# Altium integrated library rodgel.IntLib: 579 symbols (part 3 of 4)
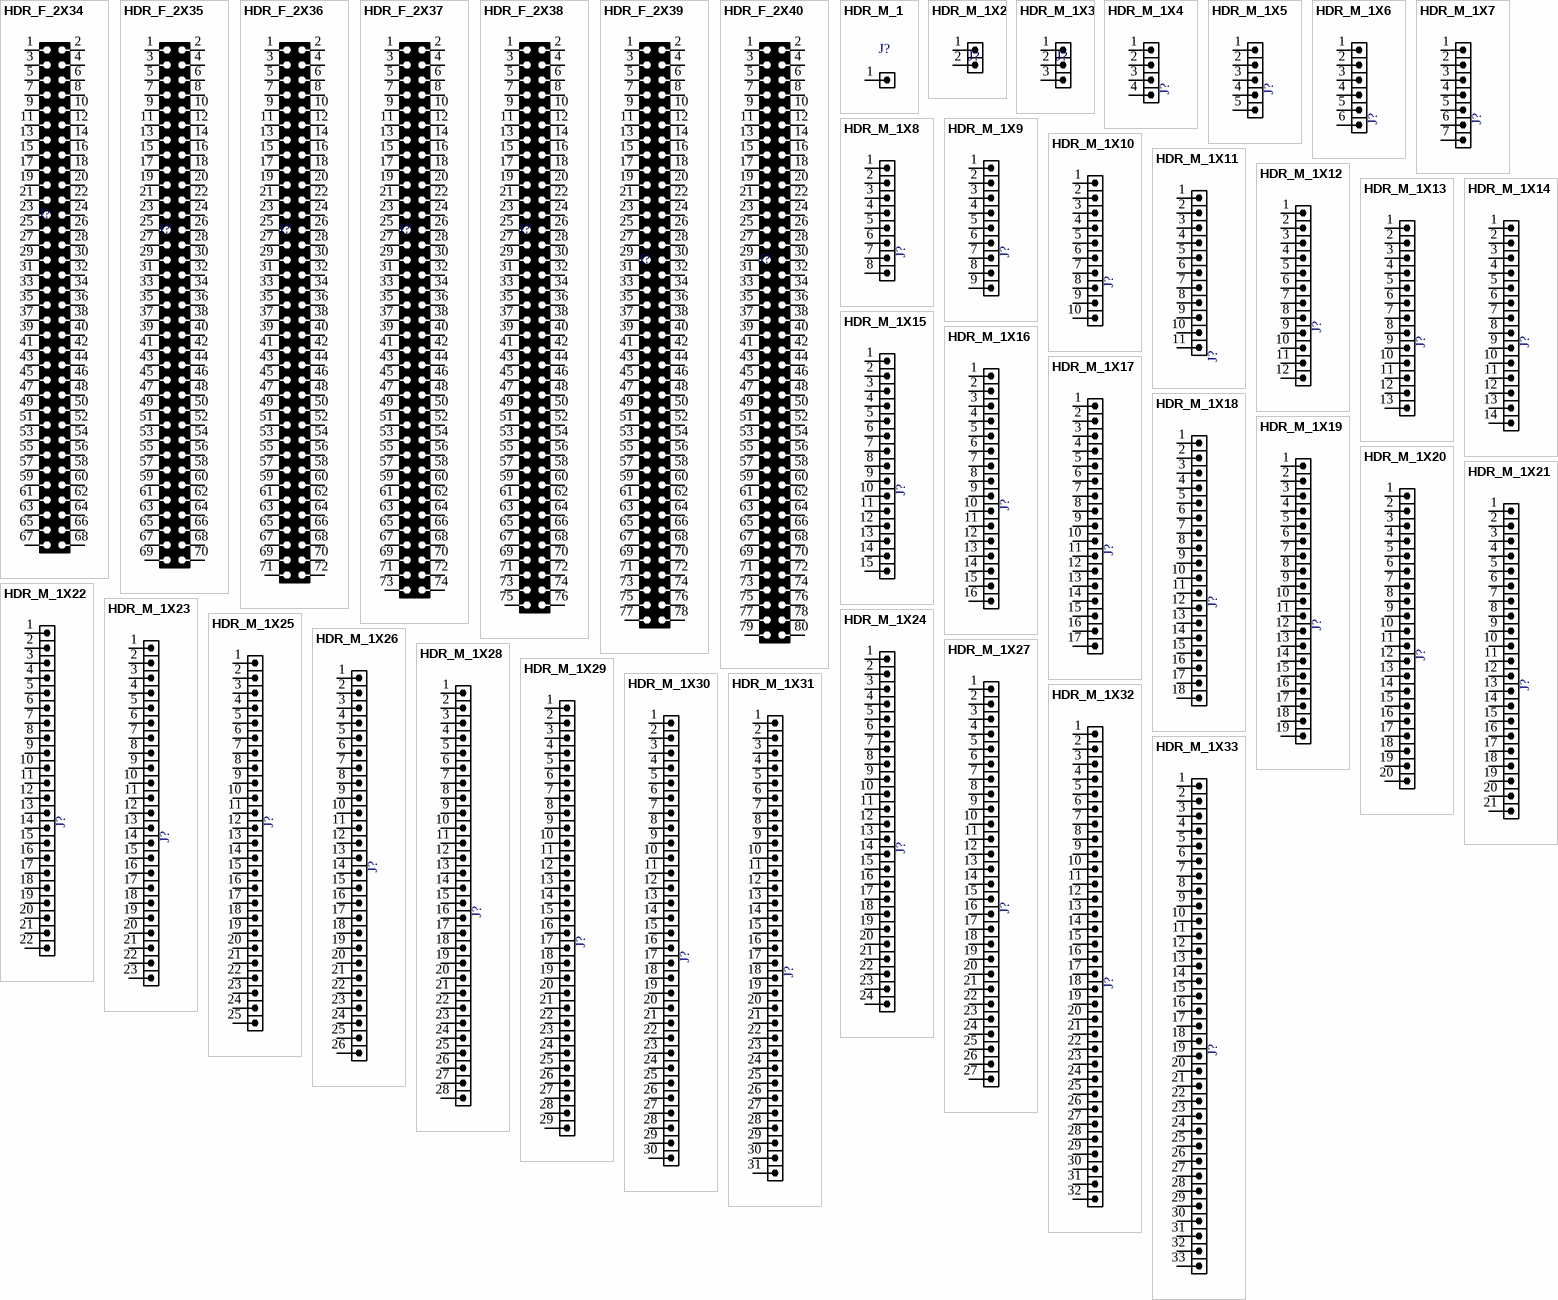
[diagram p19: symbols HDR_F_2X34 to HDR_M_1X33]

## HDR_M_1X24
designator J?, comment HDRF24  (value not drawn)
CONN, HEADER, Male, pitch: 2.54mm, 24POS; VALUE: HDRF24
footprint HDR_M_1X24 (Connector; Header; 24 Position)
pins: 1, 2, 3, 4, 5, 6, 7, 8, 9, 10, 11, 12, 13, 14, 15, 16, 17, 18, 19, 20, 21, 22, 23, 24

## HDR_M_1X25
designator J?, comment HDR1X25  (value not drawn)
CONN, HEADER, Male, pitch: 2.54mm, 25POS; VALUE: HDRM25
footprint HDR_M_1X25 (Connector; Header; 25 Position)
pins: 1, 2, 3, 4, 5, 6, 7, 8, 9, 10, 11, 12, 13, 14, 15, 16, 17, 18, 19, 20, 21, 22, 23, 24, 25

## HDR_M_1X26
designator J?, comment HDRF26  (value not drawn)
CONN, HEADER, Male, pitch: 2.54mm, 26POS; VALUE: HDRF26
footprint HDR_M_1X26 (Connector; Header; 26 Position)
pins: 1, 2, 3, 4, 5, 6, 7, 8, 9, 10, 11, 12, 13, 14, 15, 16, 17, 18, 19, 20, 21, 22, 23, 24, 25, 26

## HDR_M_1X27
designator J?, comment HDRF27  (value not drawn)
CONN, HEADER, Male, pitch: 2.54mm, 27POS; VALUE: HDRF27
footprint HDR_M_1X27 (Connector; Header; 27 Position)
pins: 1, 2, 3, 4, 5, 6, 7, 8, 9, 10, 11, 12, 13, 14, 15, 16, 17, 18, 19, 20, 21, 22, 23, 24, 25, 26, 27

## HDR_M_1X28
designator J?, comment HDRF28  (value not drawn)
CONN, HEADER, Male, pitch: 2.54mm, 28POS; VALUE: HDRF28
footprint HDR_M_1X28 (Connector; Header; 28 Position)
pins: 1, 2, 3, 4, 5, 6, 7, 8, 9, 10, 11, 12, 13, 14, 15, 16, 17, 18, 19, 20, 21, 22, 23, 24, 25, 26, 27, 28

## HDR_M_1X29
designator J?, comment HDRF29  (value not drawn)
CONN, HEADER, Male, pitch: 2.54mm, 29POS; VALUE: HDRF29
footprint HDR_M_1X29 (Connector; Header; 29 Position)
pins: 1, 2, 3, 4, 5, 6, 7, 8, 9, 10, 11, 12, 13, 14, 15, 16, 17, 18, 19, 20, 21, 22, 23, 24, 25, 26, 27, 28, 29

## HDR_M_1X30
designator J?, comment HDRF30  (value not drawn)
CONN, HEADER, Male, pitch: 2.54mm, 30POS; VALUE: HDRF30
footprint HDR_M_1X30 (Connector; Header; 30 Position)
pins: 1, 2, 3, 4, 5, 6, 7, 8, 9, 10, 11, 12, 13, 14, 15, 16, 17, 18, 19, 20, 21, 22, 23, 24, 25, 26, 27, 28, 29, 30

## HDR_M_1X31
designator J?, comment HDRF31  (value not drawn)
CONN, HEADER, Male, pitch: 2.54mm, 31POS; VALUE: HDRF31
footprint HDR_M_1X31 (Connector; Header; 31 Position)
pins: 1, 2, 3, 4, 5, 6, 7, 8, 9, 10, 11, 12, 13, 14, 15, 16, 17, 18, 19, 20, 21, 22, 23, 24, 25, 26, 27, 28, 29, 30, 31

## HDR_M_1X32
designator J?, comment HDRF32  (value not drawn)
CONN, HEADER, Male, pitch: 2.54mm, 32POS; VALUE: HDRF32
footprint HDR_M_1X32 (Connector; Header; 32 Position)
pins: 1, 2, 3, 4, 5, 6, 7, 8, 9, 10, 11, 12, 13, 14, 15, 16, 17, 18, 19, 20, 21, 22, 23, 24, 25, 26, 27, 28, 29, 30, 31, 32

## HDR_M_1X33
designator J?, comment HDRF33  (value not drawn)
CONN, HEADER, Male, pitch: 2.54mm, 33POS; VALUE: HDRF33
footprint HDR_M_1X33 (Connector; Header; 33 Position)
pins: 1, 2, 3, 4, 5, 6, 7, 8, 9, 10, 11, 12, 13, 14, 15, 16, 17, 18, 19, 20, 21, 22, 23, 24, 25, 26, 27, 28, 29, 30, 31, 32, 33

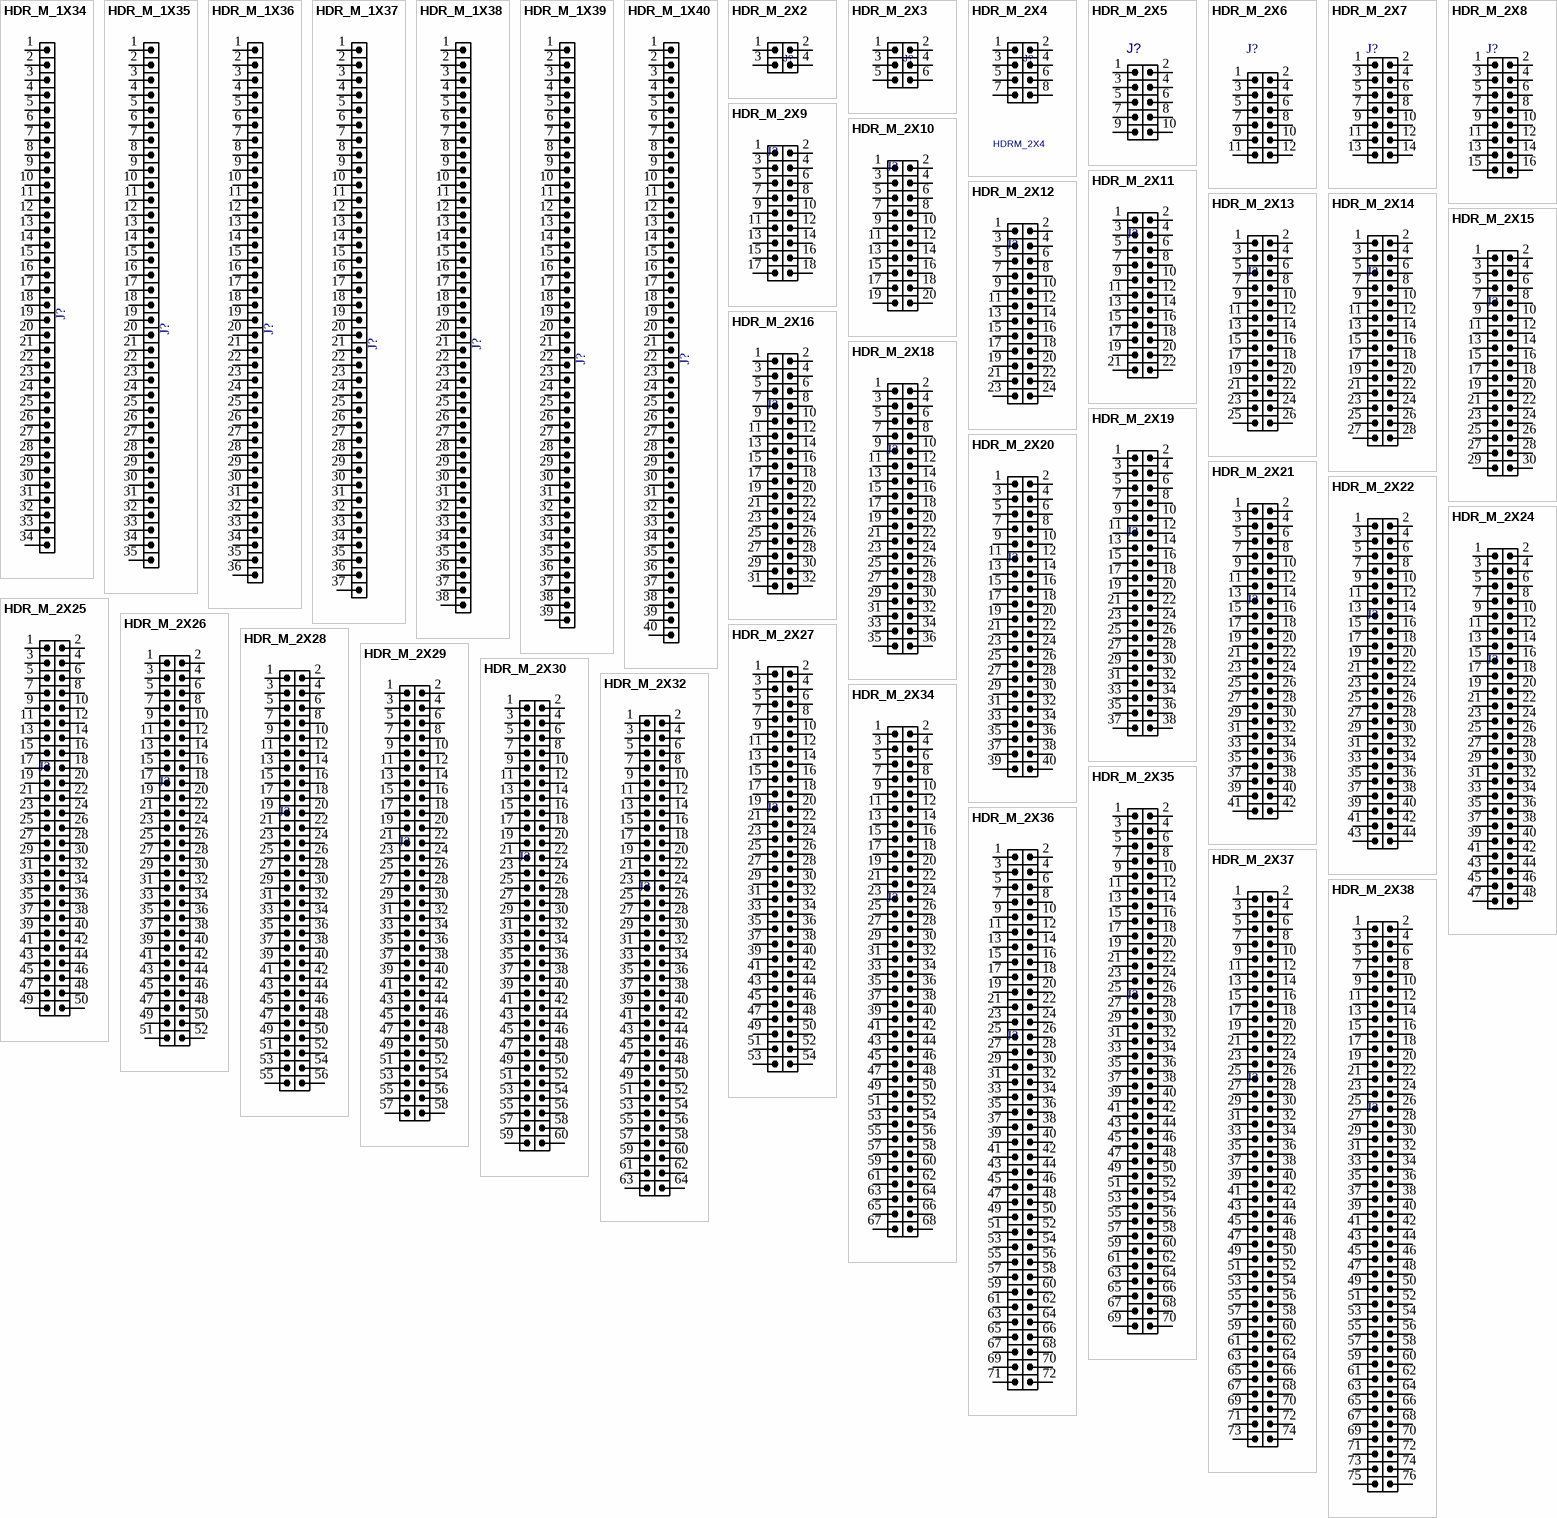
[diagram p9: symbols HDR_M_1X34 to HDR_M_2X38]

## HDR_M_1X34
designator J?, comment HDRF34  (value not drawn)
CONN, HEADER, Male, pitch: 2.54mm, 34POS; VALUE: HDRF34
footprint HDR_M_1X34 (Connector; Header; 34 Position)
pins: 1, 2, 3, 4, 5, 6, 7, 8, 9, 10, 11, 12, 13, 14, 15, 16, 17, 18, 19, 20, 21, 22, 23, 24, 25, 26, 27, 28, 29, 30, 31, 32, 33, 34

## HDR_M_1X35
designator J?, comment HDRF35  (value not drawn)
CONN, HEADER, Male, pitch: 2.54mm, 35POS; VALUE: HDRF35
footprint HDR_M_1X35 (Connector; Header; 36 Position)
pins: 1, 2, 3, 4, 5, 6, 7, 8, 9, 10, 11, 12, 13, 14, 15, 16, 17, 18, 19, 20, 21, 22, 23, 24, 25, 26, 27, 28, 29, 30, 31, 32, 33, 34, 35

## HDR_M_1X36
designator J?, comment HDRF36  (value not drawn)
CONN, HEADER, Male, pitch: 2.54mm, 36POS; VALUE: HDRF36
footprint HDR_M_1X36 (Connector; Header; 35 Position)
pins: 1, 2, 3, 4, 5, 6, 7, 8, 9, 10, 11, 12, 13, 14, 15, 16, 17, 18, 19, 20, 21, 22, 23, 24, 25, 26, 27, 28, 29, 30, 31, 32, 33, 34, 35, 36

## HDR_M_1X37
designator J?, comment HDRF37  (value not drawn)
CONN, HEADER, Male, pitch: 2.54mm, 37POS; VALUE: HDRF37
footprint HDR_M_1X37 (Connector; Header; 37 Position)
pins: 1, 2, 3, 4, 5, 6, 7, 8, 9, 10, 11, 12, 13, 14, 15, 16, 17, 18, 19, 20, 21, 22, 23, 24, 25, 26, 27, 28, 29, 30, 31, 32, 33, 34, 35, 36, 37

## HDR_M_1X38
designator J?, comment HDRF38  (value not drawn)
CONN, HEADER, Male, pitch: 2.54mm, 38POS; VALUE: HDRF38
footprint HDR_M_1X38 (Connector; Header; 38 Position)
pins: 1, 2, 3, 4, 5, 6, 7, 8, 9, 10, 11, 12, 13, 14, 15, 16, 17, 18, 19, 20, 21, 22, 23, 24, 25, 26, 27, 28, 29, 30, 31, 32, 33, 34, 35, 36, 37, 38

## HDR_M_1X39
designator J?, comment HDRF39  (value not drawn)
CONN, HEADER, Male, pitch: 2.54mm, 39POS; VALUE: HDRF39
footprint HDR_M_1X39 (Connector; Header; 39 Position)
pins: 1, 2, 3, 4, 5, 6, 7, 8, 9, 10, 11, 12, 13, 14, 15, 16, 17, 18, 19, 20, 21, 22, 23, 24, 25, 26, 27, 28, 29, 30, 31, 32, 33, 34, 35, 36, 37, 38, 39

## HDR_M_1X40
designator J?, comment HDRF40  (value not drawn)
CONN, HEADER, Male, pitch: 2.54mm, 40POS; VALUE: HDRF40
footprint HDR_M_1X40 (Connector; Header; 40 Position)
pins: 1, 2, 3, 4, 5, 6, 7, 8, 9, 10, 11, 12, 13, 14, 15, 16, 17, 18, 19, 20, 21, 22, 23, 24, 25, 26, 27, 28, 29, 30, 31, 32, 33, 34, 35, 36, 37, 38, 39, 40

## HDR_M_2X2
designator J?, comment HDRM_2X2  (value not drawn)
CONN, HEADER, Male, pitch: 2.54mm, 4POS; MANF_P#: MANF_PART#; MANF: MANF; VALUE: HDRM_2X2
footprint HDR_M_2X2 (Connector; Header; 2x2 Position)
pins: 1, 2, 3, 4

## HDR_M_2X3
designator J?, comment HDRM_2X3  (value not drawn)
CONN, HEADER, Male, pitch: 2.54mm, 6POS; MANF_P#: MANF_PART#; MANF: MANF; VALUE: HDRM_2X3
footprint HDR_M_2X3 (Connector; Header; 3x2 Position)
pins: 1, 2, 3, 4, 5, 6

## HDR_M_2X4
designator J?, comment HDRM_2X4
CONN, HEADER, Male, pitch: 2.54mm, 8POS; MANF_P#: MANF_PART#; MANF: MANF; VALUE: HDRM_2X4
footprint HDR_M_2X4 (Male Header 2X04 with 2.54 mm Pitch)
pins: 1, 2, 3, 4, 5, 6, 7, 8

## HDR_M_2X5
designator J?, comment HDRM_2X5  (value not drawn)
CONN, HEADER, Male, pitch: 2.54mm, 10POS; VALUE: HDRM_2X5
footprint HDR_M_2X5 (Male Header 2X05 with 2.54 mm Pitch)
pins: 1, 2, 3, 4, 5, 6, 7, 8, 9, 10

## HDR_M_2X6
designator J?, comment HDRM_2X6  (value not drawn)
CONN, HEADER, Male, pitch: 2.54mm, 12POS; VALUE: HDRM_2X6
footprint HDR_M_2X6 (Male Header 2X06 with 2.54 mm Pitch)
pins: 1, 2, 3, 4, 5, 6, 7, 8, 9, 10, 11, 12

## HDR_M_2X7
designator J?, comment HDRM_2X7  (value not drawn)
CONN, HEADER, Male, pitch: 2.54mm, 14POS; VALUE: HDRM_2X7
footprint HDR_M_2X7 (Male Header 2X07 with 2.54 mm Pitch)
pins: 1, 2, 3, 4, 5, 6, 7, 8, 9, 10, 11, 12, 13, 14

## HDR_M_2X8
designator J?, comment HDRM_2X8  (value not drawn)
CONN, HEADER, Male, pitch: 2.54mm, 16POS; VALUE: HDRM_2X8
footprint HDR_M_2X8 (Male Header 2X08 with 2.54 mm Pitch)
pins: 1, 2, 3, 4, 5, 6, 7, 8, 9, 10, 11, 12, 13, 14, 15, 16

## HDR_M_2X9
designator J?, comment HDRM_2X9  (value not drawn)
CONN, HEADER, Male, pitch: 2.54mm, 18POS; VALUE: HDRM_2X9
footprint HDR_M_2X9 (Male Header 2X09 with 2.54 mm Pitch)
pins: 1, 2, 3, 4, 5, 6, 7, 8, 9, 10, 11, 12, 13, 14, 15, 16, 17, 18

## HDR_M_2X10
designator J?, comment HDRM_2X10  (value not drawn)
CONN, HEADER, Male, pitch: 2.54mm, 20POS; VALUE: HDRM_2X10
footprint HDR_M_2X10 (Male Header 2X10 with 2.54 mm Pitch)
pins: 1, 2, 3, 4, 5, 6, 7, 8, 9, 10, 11, 12, 13, 14, 15, 16, 17, 18, 19, 20

## HDR_M_2X11
designator J?, comment HDRM_2X11  (value not drawn)
CONN, HEADER, Male, pitch: 2.54mm, 22POS; VALUE: HDRM_2X11
footprint HDR_M_2X11 (Male Header 2X11 with 2.54 mm Pitch)
pins: 1, 2, 3, 4, 5, 6, 7, 8, 9, 10, 11, 12, 13, 14, 15, 16, 17, 18, 19, 20, 21, 22

## HDR_M_2X12
designator J?, comment HDRM_2X12  (value not drawn)
CONN, HEADER, Male, pitch: 2.54mm, 24POS; VALUE: HDRM_2X12
footprint HDR_M_2X12 (Male Header 2X12 with 2.54 mm Pitch)
pins: 1, 2, 3, 4, 5, 6, 7, 8, 9, 10, 11, 12, 13, 14, 15, 16, 17, 18, 19, 20, 21, 22, 23, 24

## HDR_M_2X13
designator J?, comment HDRM_2X13  (value not drawn)
CONN, HEADER, Male, pitch: 2.54mm, 26POS; VALUE: HDRM_2X13
footprint HDR_M_2X13 (Male Header 2X13 with 2.54 mm Pitch)
pins: 1, 2, 3, 4, 5, 6, 7, 8, 9, 10, 11, 12, 13, 14, 15, 16, 17, 18, 19, 20, 21, 22, 23, 24, 25, 26

## HDR_M_2X14
designator J?, comment HDRM_2X14  (value not drawn)
CONN, HEADER, Male, pitch: 2.54mm, 28POS; VALUE: HDRM_2X14
footprint HDR_M_2X14 (Male Header 2X14 with 2.54 mm Pitch)
pins: 1, 2, 3, 4, 5, 6, 7, 8, 9, 10, 11, 12, 13, 14, 15, 16, 17, 18, 19, 20, 21, 22, 23, 24, 25, 26, 27, 28

## HDR_M_2X15
designator J?, comment HDRM_2X15  (value not drawn)
CONN, HEADER, Male, pitch: 2.54mm, 30POS; VALUE: HDRM_2X15
footprint HDR_M_2X15 (Connector; Header; 15x2 Position)
pins: 1, 2, 3, 4, 5, 6, 7, 8, 9, 10, 11, 12, 13, 14, 15, 16, 17, 18, 19, 20, 21, 22, 23, 24, 25, 26, 27, 28, 29, 30

## HDR_M_2X16
designator J?, comment HDRM_2X16  (value not drawn)
CONN, HEADER, Male, pitch: 2.54mm, 32POS; VALUE: HDRM_2X16
footprint HDR_M_2X16 (Connector; Header; 16x2 Position)
pins: 1, 2, 3, 4, 5, 6, 7, 8, 9, 10, 11, 12, 13, 14, 15, 16, 17, 18, 19, 20, 21, 22, 23, 24, 25, 26, 27, 28, 29, 30, 31, 32

## HDR_M_2X18
designator J?, comment HDRM_2X18  (value not drawn)
CONN, HEADER, Male, pitch: 2.54mm, 36POS; VALUE: HDRM_2X18
footprint HDR_M_2X18 (Connector; Header; 18x2 Position)
pins: 1, 2, 3, 4, 5, 6, 7, 8, 9, 10, 11, 12, 13, 14, 15, 16, 17, 18, 19, 20, 21, 22, 23, 24, 25, 26, 27, 28, 29, 30, 31, 32, 33, 34, 35, 36

## HDR_M_2X19
designator J?, comment HDRM_2X19  (value not drawn)
CONN, HEADER, Male, pitch: 2.54mm, 38POS; VALUE: HDRM_2X19
footprint HDR_M_2X19 (Connector; Header; 19x2 Position)
pins: 1, 2, 3, 4, 5, 6, 7, 8, 9, 10, 11, 12, 13, 14, 15, 16, 17, 18, 19, 20, 21, 22, 23, 24, 25, 26, 27, 28, 29, 30, 31, 32, 33, 34, 35, 36, 37, 38

## HDR_M_2X20
designator J?, comment HDRM_2X20  (value not drawn)
CONN, HEADER, Male, pitch: 2.54mm, 40POS; VALUE: HDRM_2X20
footprint HDR_M_2X20 (Connector; Header; 20x2 Position)
pins: 1, 2, 3, 4, 5, 6, 7, 8, 9, 10, 11, 12, 13, 14, 15, 16, 17, 18, 19, 20, 21, 22, 23, 24, 25, 26, 27, 28, 29, 30, 31, 32, 33, 34, 35, 36, 37, 38, 39, 40

## HDR_M_2X21
designator J?  (value not drawn)
CONN, HEADER, Male, pitch: 2.54mm; VALUE: HDR_M_2X21
footprint HDR_M_2X21 (Footprint not found)
pins: 1, 2, 3, 4, 5, 6, 7, 8, 9, 10, 11, 12, 13, 14, 15, 16, 17, 18, 19, 20, 21, 22, 23, 24, 25, 26, 27, 28, 29, 30, 31, 32, 33, 34, 35, 36, 37, 38, 39, 40, 41, 42

## HDR_M_2X22
designator J?  (value not drawn)
CONN, HEADER, Male, pitch: 2.54mm, 44POS; VALUE: HDR_M_2X22
footprint HDR_M_2X22 (Male Header 2X22 with 2.54 mm Pitch)
pins: 1, 2, 3, 4, 5, 6, 7, 8, 9, 10, 11, 12, 13, 14, 15, 16, 17, 18, 19, 20, 21, 22, 23, 24, 25, 26, 27, 28, 29, 30, 31, 32, 33, 34, 35, 36, 37, 38, 39, 40, 41, 42, 43, 44

## HDR_M_2X24
designator J?  (value not drawn)
CONN, HEADER, Male, pitch: 2.54mm, 48POS; VALUE: HDR_M_2X24
footprint HDR_M_2X24 (Male Header 2X24 with 2.54 mm Pitch)
pins: 1, 2, 3, 4, 5, 6, 7, 8, 9, 10, 11, 12, 13, 14, 15, 16, 17, 18, 19, 20, 21, 22, 23, 24, 25, 26, 27, 28, 29, 30, 31, 32, 33, 34, 35, 36, 37, 38, 39, 40, 41, 42, 43, 44, 45, 46, 47, 48

## HDR_M_2X25
designator J?  (value not drawn)
CONN, HEADER, Male, pitch: 2.54mm, 50POS; VALUE: HDR_M_2X25
footprint HDR_M_2X25 (Male Header 2X25 with 2.54 mm Pitch)
pins: 1, 2, 3, 4, 5, 6, 7, 8, 9, 10, 11, 12, 13, 14, 15, 16, 17, 18, 19, 20, 21, 22, 23, 24, 25, 26, 27, 28, 29, 30, 31, 32, 33, 34, 35, 36, 37, 38, 39, 40, 41, 42, 43, 44, 45, 46, 47, 48, 49, 50

## HDR_M_2X26
designator J?  (value not drawn)
CONN, HEADER, Male, pitch: 2.54mm, 52POS; VALUE: HDR_M_2X26
footprint HDR_M_2X26 (Male Header 2X26 with 2.54 mm Pitch)
pins: 1, 2, 3, 4, 5, 6, 7, 8, 9, 10, 11, 12, 13, 14, 15, 16, 17, 18, 19, 20, 21, 22, 23, 24, 25, 26, 27, 28, 29, 30, 31, 32, 33, 34, 35, 36, 37, 38, 39, 40, 41, 42, 43, 44, 45, 46, 47, 48, 49, 50, 51, 52

## HDR_M_2X27
designator J?  (value not drawn)
CONN, HEADER, Male, pitch: 2.54mm,; VALUE: HDR_M_2X27
footprint HDR_M_2X27 (Footprint not found)
pins: 1, 2, 3, 4, 5, 6, 7, 8, 9, 10, 11, 12, 13, 14, 15, 16, 17, 18, 19, 20, 21, 22, 23, 24, 25, 26, 27, 28, 29, 30, 31, 32, 33, 34, 35, 36, 37, 38, 39, 40, 41, 42, 43, 44, 45, 46, 47, 48, 49, 50, 51, 52, 53, 54

## HDR_M_2X28
designator J?  (value not drawn)
CONN, HEADER, Male, pitch: 2.54mm, 54POS; VALUE: HDR_M_2X28
footprint HDR_M_2X28 (Male Header 2X28 with 2.54 mm Pitch)
pins: 1, 2, 3, 4, 5, 6, 7, 8, 9, 10, 11, 12, 13, 14, 15, 16, 17, 18, 19, 20, 21, 22, 23, 24, 25, 26, 27, 28, 29, 30, 31, 32, 33, 34, 35, 36, 37, 38, 39, 40, 41, 42, 43, 44, 45, 46, 47, 48, 49, 50, 51, 52, 53, 54, 55, 56

## HDR_M_2X29
designator J?  (value not drawn)
CONN, HEADER, Male, pitch: 2.54mm,; VALUE: HDR_M_2X29
footprint HDR_M_2X29 (Footprint not found)
pins: 1, 2, 3, 4, 5, 6, 7, 8, 9, 10, 11, 12, 13, 14, 15, 16, 17, 18, 19, 20, 21, 22, 23, 24, 25, 26, 27, 28, 29, 30, 31, 32, 33, 34, 35, 36, 37, 38, 39, 40, 41, 42, 43, 44, 45, 46, 47, 48, 49, 50, 51, 52, 53, 54, 55, 56, 57, 58

## HDR_M_2X30
designator J?  (value not drawn)
CONN, HEADER, Male, pitch: 2.54mm, 60POS; VALUE: HDR_M_2X30
footprint HDR_M_2X30 (Male Header 2X30 with 2.54 mm Pitch)
pins: 1, 2, 3, 4, 5, 6, 7, 8, 9, 10, 11, 12, 13, 14, 15, 16, 17, 18, 19, 20, 21, 22, 23, 24, 25, 26, 27, 28, 29, 30, 31, 32, 33, 34, 35, 36, 37, 38, 39, 40, 41, 42, 43, 44, 45, 46, 47, 48, 49, 50, 51, 52, 53, 54, 55, 56, 57, 58, 59, 60

## HDR_M_2X32
designator J?  (value not drawn)
CONN, HEADER, Male, pitch: 2.54mm, 64POS; VALUE: HDR_M_2X32
footprint HDR_M_2X32 (Male Header 2X32 with 2.54 mm Pitch)
pins: 1, 2, 3, 4, 5, 6, 7, 8, 9, 10, 11, 12, 13, 14, 15, 16, 17, 18, 19, 20, 21, 22, 23, 24, 25, 26, 27, 28, 29, 30, 31, 32, 33, 34, 35, 36, 37, 38, 39, 40, 41, 42, 43, 44, 45, 46, 47, 48, 49, 50, 51, 52, 53, 54, 55, 56, 57, 58, 59, 60, 61, 62, 63, 64

## HDR_M_2X34
designator J?  (value not drawn)
CONN, HEADER, Male, pitch: 2.54mm, 68POS; VALUE: HDR_M_2X34
footprint HDR_M_2X34 (Male Header 2X34 with 2.54 mm Pitch)
pins: 1, 2, 3, 4, 5, 6, 7, 8, 9, 10, 11, 12, 13, 14, 15, 16, 17, 18, 19, 20, 21, 22, 23, 24, 25, 26, 27, 28, 29, 30, 31, 32, 33, 34, 35, 36, 37, 38, 39, 40, 41, 42, 43, 44, 45, 46, 47, 48, 49, 50, 51, 52, 53, 54, 55, 56, 57, 58, 59, 60, 61, 62, 63, 64, 65, 66, 67, 68

## HDR_M_2X35
designator J?  (value not drawn)
CONN, HEADER, Male, pitch: 2.54mm, 70POS; VALUE: HDR_M_2X35
footprint HDR_M_2X35 (Male Header 2X35 with 2.54 mm Pitch)
pins: 1, 2, 3, 4, 5, 6, 7, 8, 9, 10, 11, 12, 13, 14, 15, 16, 17, 18, 19, 20, 21, 22, 23, 24, 25, 26, 27, 28, 29, 30, 31, 32, 33, 34, 35, 36, 37, 38, 39, 40, 41, 42, 43, 44, 45, 46, 47, 48, 49, 50, 51, 52, 53, 54, 55, 56, 57, 58, 59, 60, 61, 62, 63, 64, 65, 66, 67, 68, 69, 70

## HDR_M_2X36
designator J?  (value not drawn)
CONN, HEADER, Male, pitch: 2.54mm, 72POS; VALUE: HDR_M_2X36
footprint HDR_M_2X36 (Male Header 2X36 with 2.54 mm Pitch)
pins: 1, 2, 3, 4, 5, 6, 7, 8, 9, 10, 11, 12, 13, 14, 15, 16, 17, 18, 19, 20, 21, 22, 23, 24, 25, 26, 27, 28, 29, 30, 31, 32, 33, 34, 35, 36, 37, 38, 39, 40, 41, 42, 43, 44, 45, 46, 47, 48, 49, 50, 51, 52, 53, 54, 55, 56, 57, 58, 59, 60, 61, 62, 63, 64, 65, 66, 67, 68, 69, 70, 71, 72

## HDR_M_2X37
designator J?  (value not drawn)
CONN, HEADER, Male, pitch: 2.54mm,; VALUE: HDR_M_2X37
footprint HDR_M_2X37 (Footprint not found)
pins: 1, 2, 3, 4, 5, 6, 7, 8, 9, 10, 11, 12, 13, 14, 15, 16, 17, 18, 19, 20, 21, 22, 23, 24, 25, 26, 27, 28, 29, 30, 31, 32, 33, 34, 35, 36, 37, 38, 39, 40, 41, 42, 43, 44, 45, 46, 47, 48, 49, 50, 51, 52, 53, 54, 55, 56, 57, 58, 59, 60, 61, 62, 63, 64, 65, 66, 67, 68, 69, 70, 71, 72, 73, 74

## HDR_M_2X38
designator J?  (value not drawn)
CONN, HEADER, Male, pitch: 2.54mm, 76POS; VALUE: HDR_M_2X38
footprint HDR_M_2X38 (Male Header 2X38 with 2.54 mm Pitch)
pins: 1, 2, 3, 4, 5, 6, 7, 8, 9, 10, 11, 12, 13, 14, 15, 16, 17, 18, 19, 20, 21, 22, 23, 24, 25, 26, 27, 28, 29, 30, 31, 32, 33, 34, 35, 36, 37, 38, 39, 40, 41, 42, 43, 44, 45, 46, 47, 48, 49, 50, 51, 52, 53, 54, 55, 56, 57, 58, 59, 60, 61, 62, 63, 64, 65, 66, 67, 68, 69, 70, 71, 72, 73, 74, 75, 76

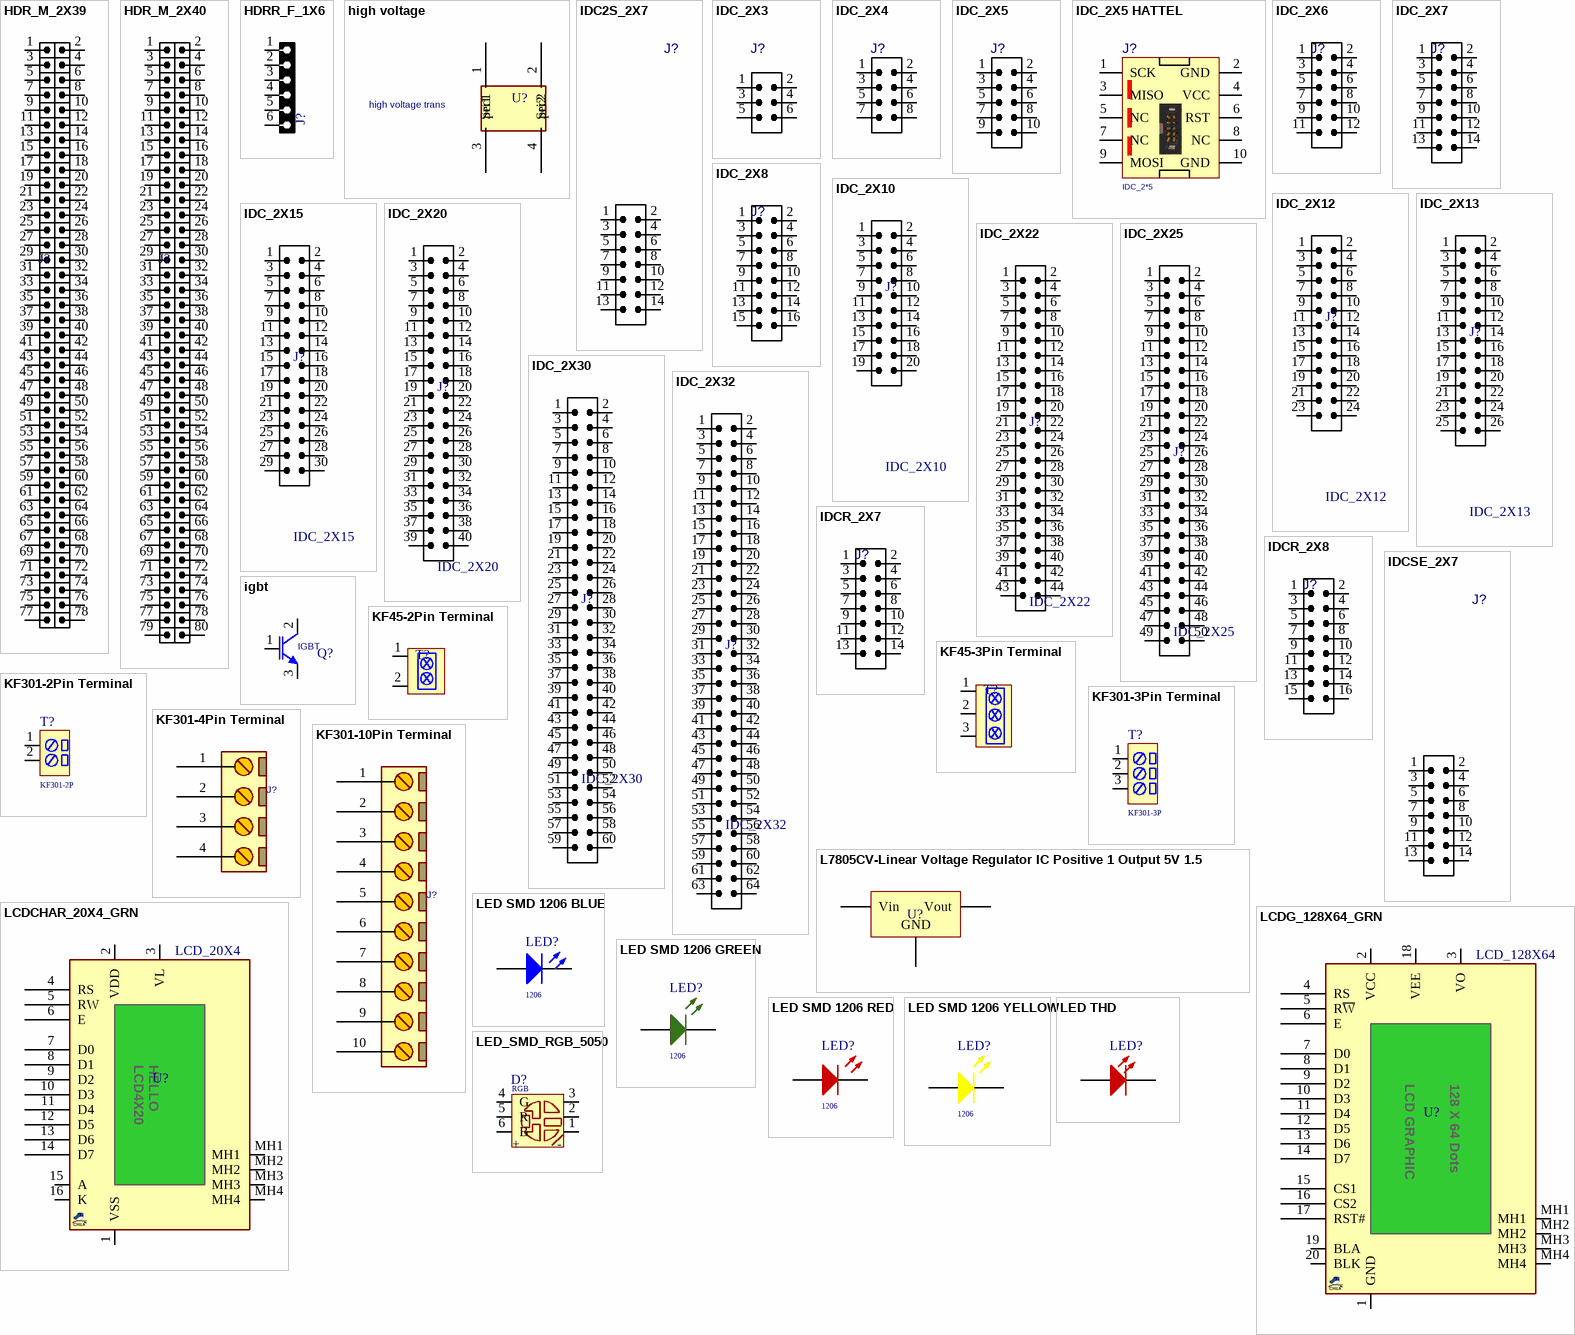
[diagram p10: symbols HDR_M_2X39 to LED_SMD_RGB_5050]

## HDR_M_2X39
designator J?  (value not drawn)
CONN, HEADER, Male, pitch: 2.54mm,; VALUE: HDR_M_2X39
footprint HDR_M_2X39 (Footprint not found)
pins: 1, 2, 3, 4, 5, 6, 7, 8, 9, 10, 11, 12, 13, 14, 15, 16, 17, 18, 19, 20, 21, 22, 23, 24, 25, 26, 27, 28, 29, 30, 31, 32, 33, 34, 35, 36, 37, 38, 39, 40, 41, 42, 43, 44, 45, 46, 47, 48, 49, 50, 51, 52, 53, 54, 55, 56, 57, 58, 59, 60, 61, 62, 63, 64, 65, 66, 67, 68, 69, 70, 71, 72, 73, 74, 75, 76, 77, 78

## HDR_M_2X40
designator J?  (value not drawn)
CONN, HEADER, Male, pitch: 2.54mm, 80POS; VALUE: HDR_M_2X40
footprint HDR_M_2X40 (Male Header 2X40 with 2.54 mm Pitch)
pins: 1, 2, 3, 4, 5, 6, 7, 8, 9, 10, 11, 12, 13, 14, 15, 16, 17, 18, 19, 20, 21, 22, 23, 24, 25, 26, 27, 28, 29, 30, 31, 32, 33, 34, 35, 36, 37, 38, 39, 40, 41, 42, 43, 44, 45, 46, 47, 48, 49, 50, 51, 52, 53, 54, 55, 56, 57, 58, 59, 60, 61, 62, 63, 64, 65, 66, 67, 68, 69, 70, 71, 72, 73, 74, 75, 76, 77, 78, 79, 80

## HDRR_F_1X6
designator J?, comment HDRF6  (value not drawn)
CONN, HEADER, Female, pitch: 2.54mm, 6POS; VALUE: HDRF6
footprint HDRR_F_1X6 (Connector; Header; 6 Position)
pins: 1, 2, 3, 4, 5, 6

## high voltage
designator U?, comment high voltage trans
MANF: Texas Instruments; MANF_P#: TLC59731D; PARAM2: 3.3/5VDD; PARAM: 50mA, 600Kbps, -40~+125℃; PRICE: 0.8$; VALUE: high voltage trans
footprint high voltage trans
pins: 1 pri1, 2 pri2, 3 Sec1, 4 Sec2

## IDC2S_2X7
designator J?, comment IDC2_2X7  (value not drawn)
CONN, IDC, Male, pitch: 2.54mm, 14POS, SMD; MANF_P#: 87832-1420; MANF: MOLEX; DESC: CONN HEADER .100 DUAL; ASSEMBLY: ASSEMBLY; PARAM: PARAM; PRICE: PRICE; VALUE: IDC2_2X7
footprint IDC2S_2X7 (MOLEX 87832-1420)
pins: 1, 2, 3, 4, 5, 6, 7, 8, 9, 10, 11, 12, 13, 14

## IDC_2X3
designator J?  (value not drawn)
CONN, IDC, Male, pitch: 2.54mm, 6POS; VALUE: IDC_2X3
footprint IDC_2X3
pins: 1, 2, 3, 4, 5, 6

## IDC_2X4
designator J?  (value not drawn)
CONN, IDC, Male, pitch: 2.54mm, 8POS; VALUE: IDC_2X4
footprint IDC_2X4 (IDC, HEADER BOX 2X4, 8p, 2.54mm pitch)
pins: 1, 2, 3, 4, 5, 6, 7, 8

## IDC_2X5
designator J?  (value not drawn)
CONN, IDC, Male, pitch: 2.54mm, 10POS; VALUE: IDC_2X5
footprint IDC_2X5 (IDC, HEADER BOX 2X5, 10p, 2.54mm pitch)
pins: 1, 2, 3, 4, 5, 6, 7, 8, 9, 10

## IDC_2X5 HATTEL
designator J?  value IDC_2*5
CONN, IDC, Male, pitch: 2.54mm, 10POS; Code Anbar: gh_o_1137_2; Designer: ahmadi; Package: BOX_HEADER; Category: Connector; Desc: *
footprint IDC2.54-10PIN @ (Connector; IDC, Low Profile Male Header, Thru-Hole; 10 Position; Vertical; Pitch 2.54 mm; 20.32 x 9.2 x 9.45 mm (LxWxH) DESIGNER : ABBAS BASEREH)
pins: 1 SCK, 2 GND, 3 MISO, 4 VCC, 5 NC, 6 RST, 7 NC, 8 NC, 9 MOSI, 10 GND

## IDC_2X6
designator J?  (value not drawn)
CONN, IDC, Male, pitch: 2.54mm, 12POS; VALUE: IDC_2X6
footprint IDC_2X6
pins: 1, 2, 3, 4, 5, 6, 7, 8, 9, 10, 11, 12

## IDC_2X7
designator J?  (value not drawn)
CONN, IDC, Male, pitch: 2.54mm, 14POS; VALUE: IDC_2X7
footprint IDC_2X7
pins: 1, 2, 3, 4, 5, 6, 7, 8, 9, 10, 11, 12, 13, 14

## IDC_2X8
designator J?  (value not drawn)
CONN, IDC, Male, pitch: 2.54mm, 16POS; VALUE: IDC_2X8
footprint IDC_2X8
pins: 1, 2, 3, 4, 5, 6, 7, 8, 9, 10, 11, 12, 13, 14, 15, 16

## IDC_2X10
designator J?
CONN, IDC, Male, pitch: 2.54mm, 20POS; VALUE: IDC_2X10
footprint IDC_2X10
pins: 1, 2, 3, 4, 5, 6, 7, 8, 9, 10, 11, 12, 13, 14, 15, 16, 17, 18, 19, 20

## IDC_2X12
designator J?
CONN, IDC, Male, pitch: 2.54mm, 24POS; VALUE: IDC_2X12
footprint IDC_2X12
pins: 1, 2, 3, 4, 5, 6, 7, 8, 9, 10, 11, 12, 13, 14, 15, 16, 17, 18, 19, 20, 21, 22, 23, 24

## IDC_2X13
designator J?
CONN, IDC, Male, pitch: 2.54mm, 26POS; VALUE: IDC_2X13
footprint IDC_2X13
pins: 1, 2, 3, 4, 5, 6, 7, 8, 9, 10, 11, 12, 13, 14, 15, 16, 17, 18, 19, 20, 21, 22, 23, 24, 25, 26

## IDC_2X15
designator J?
CONN, IDC, Male, pitch: 2.54mm, 30POS; VALUE: IDC_2X15
footprint IDC_2X15
pins: 1, 2, 3, 4, 5, 6, 7, 8, 9, 10, 11, 12, 13, 14, 15, 16, 17, 18, 19, 20, 21, 22, 23, 24, 25, 26, 27, 28, 29, 30

## IDC_2X20
designator J?
CONN, IDC, Male, pitch: 2.54mm, 40POS; VALUE: IDC_2X20
footprint IDC_2X20
pins: 1, 2, 3, 4, 5, 6, 7, 8, 9, 10, 11, 12, 13, 14, 15, 16, 17, 18, 19, 20, 21, 22, 23, 24, 25, 26, 27, 28, 29, 30, 31, 32, 33, 34, 35, 36, 37, 38, 39, 40

## IDC_2X22
designator J?
CONN, IDC, Male, pitch: 2.54mm, 44POS; VALUE: IDC_2X22
footprint IDC_2X22
pins: 1, 2, 3, 4, 5, 6, 7, 8, 9, 10, 11, 12, 13, 14, 15, 16, 17, 18, 19, 20, 21, 22, 23, 24, 25, 26, 27, 28, 29, 30, 31, 32, 33, 34, 35, 36, 37, 38, 39, 40, 41, 42, 43, 44

## IDC_2X25
designator J?
CONN, IDC, Male, pitch: 2.54mm, 50POS; VALUE: IDC_2X25
footprint IDC_2X25
pins: 1, 2, 3, 4, 5, 6, 7, 8, 9, 10, 11, 12, 13, 14, 15, 16, 17, 18, 19, 20, 21, 22, 23, 24, 25, 26, 27, 28, 29, 30, 31, 32, 33, 34, 35, 36, 37, 38, 39, 40, 41, 42, 43, 44, 45, 46, 47, 48, 49, 50

## IDC_2X30
designator J?
CONN, IDC, Male, pitch: 2.54mm, 60POS; VALUE: IDC_2X30
footprint IDC_2X30
pins: 1, 2, 3, 4, 5, 6, 7, 8, 9, 10, 11, 12, 13, 14, 15, 16, 17, 18, 19, 20, 21, 22, 23, 24, 25, 26, 27, 28, 29, 30, 31, 32, 33, 34, 35, 36, 37, 38, 39, 40, 41, 42, 43, 44, 45, 46, 47, 48, 49, 50, 51, 52, 53, 54, 55, 56, 57, 58, 59, 60

## IDC_2X32
designator J?
CONN, IDC, Male, pitch: 2.54mm, 64POS; VALUE: IDC_2X32
footprint IDC_2X32
pins: 1, 2, 3, 4, 5, 6, 7, 8, 9, 10, 11, 12, 13, 14, 15, 16, 17, 18, 19, 20, 21, 22, 23, 24, 25, 26, 27, 28, 29, 30, 31, 32, 33, 34, 35, 36, 37, 38, 39, 40, 41, 42, 43, 44, 45, 46, 47, 48, 49, 50, 51, 52, 53, 54, 55, 56, 57, 58, 59, 60, 61, 62, 63, 64

## IDCR_2X7
designator J?, comment IDC_2X7  (value not drawn)
CONN, IDC, Male, pitch: 2.54mm, 14POS, RightAngle; VALUE: IDC_2X7
footprint IDCR_2X7
pins: 1, 2, 3, 4, 5, 6, 7, 8, 9, 10, 11, 12, 13, 14

## IDCR_2X8
designator J?, comment IDC_2X8  (value not drawn)
CONN, IDC, Male, pitch: 2.54mm, 16POS, RightAngle; VALUE: IDC_2X8
footprint IDCR_2X8
pins: 1, 2, 3, 4, 5, 6, 7, 8, 9, 10, 11, 12, 13, 14, 15, 16

## IDCSE_2X7
designator J?, comment IDC_2X7  (value not drawn)
CONN, IDC, Male, pitch: 2.54mm, 14POS, SMD; DESC: CONN HEADER .100 DUAL; MANF_P#: -; MANF: -; ASSEMBLY: ASSEMBLY; PARAM: PARAM; PRICE: PRICE; VALUE: IDC_2X7
footprint IDCSE_2X7 (IDC, HEADER BOX 2X7, 14p, 2.54mm pitch, EDGE of Board)
pins: 1, 2, 3, 4, 5, 6, 7, 8, 9, 10, 11, 12, 13, 14

## igbt
designator Q?, comment IGBT
BJT, NPN, 45v, 0.1A, SOT23; PARAM: 0.1A, Hfe110~800; PARAM2: 45v, 500mW; MANF_P#: BC847; MANF: NXP; VALUE: IGBT
footprint TO247_3 (TO247, TO-247, TO-3P pitch: 5.5mm 16x5mm, TO-218)
footprint TO247_3B (TO247, TO-247, TO-3P BENDED, pitch: 5.5mm  TO-218)
pins: 1 i, 2 C, 3 E

## KF45-2Pin Terminal
designator T?  (value not drawn)
Value: KF45-2P; Category: Connector
footprint KF45 2PIN (Designer Abbas Basereh)
pins: 1, 2

## KF45-3Pin Terminal
designator T?  (value not drawn)
Value: KF45-2P; Category: Connector
footprint KF45 3PIN (Designer Abbas Basereh)
pins: 1, 2, 3

## KF301-2Pin Terminal
designator T?  value KF301-2P  (hidden comment: KF301-2Pin Terminal)
Terminal 2 Pin 250VAC 16A; Designer: Abbas Basereh; Category: Connector
footprint KF301 2PIN (Designer Abbas Basereh)
pins: 1, 2

## KF301-3Pin Terminal
designator T?  value KF301-3P  (hidden comment: KF301-3Pin Terminal)
Terminal 3 Pin 250VAC 16A; Designer: Abbas Basereh; Category: Connector
footprint KF301 3PIN (Designer Abbas Basereh)
pins: 1, 2, 3

## KF301-4Pin Terminal
designator J?, comment CONN_TB4  (value not drawn)
CONN, TERMINAL BLOCK, 5.08mm pitch; VALUE: CONN_TB4
footprint KF301 4PIN (Terminal Block Blue)
pins: 1, 2, 3, 4

## KF301-10Pin Terminal
designator J?, comment CONN_TB10  (value not drawn)
CONN, TERMINAL BLOCK, 5.08mm pitch; VALUE: CONN_TB10
footprint P_TBB_10 (Terminal Block Blue)
pins: 1, 2, 3, 4, 5, 6, 7, 8, 9, 10

## L7805CV-Linear Voltage Regulator IC Positive 1 Output 5V 1.5A TO-220AB
designator U?, comment L7805CV  (value not drawn)
Linear Voltage Regulator IC Positive FIXED; Manufacturer: STMicroelectronics; Designer: Abbas Basereh; Link: https://www.aliexpress.com/item/; Link: http://www.tme.eu/en/; Link: http://www.digikey.com/; Part. No: L7805CV
footprint TO-220 AB WITH HEAT SINK (Epoxy meets UL94, V0)
footprint TO-220 AB (Epoxy meets UL94, V0)
footprint TO-220 AB S (Epoxy meets UL94, V0)
footprint TO-220 AB WITH HEAT SINK ASM
footprint TO-220 AB with heatsink ya25 (Epoxy meets UL94, V0-Design:Abbas Basereh)
pins: 1 Vin, 2 GND, 3 Vout

## LCDCHAR_20X4_GRN
designator U?, comment LCD_20X4
LCD Character Disp, 20X4; MANF: Sunrom; MANF_P#: JHD204A; PARAM2: Green back, Gray, 5V; PARAM: 4 lines x 20 characters; VALUE: LCD_20X4
footprint LCDCHAR_20X4_GRN (LCD Characters Display, 4linesX20char, Green, header1x16)
pins: 1 VSS, 2 VDD, 3 VL, 4 RS, 5 RW, 6 E, 7 D0, 8 D1, 9 D2, 10 D3, 11 D4, 12 D5, 13 D6, 14 D7, 15 A, 16 K, MH1, MH2, MH3, MH4
text: LCD4X20; HELLO

## LCDG_128X64_GRN
designator U?, comment LCD_128X64
LCD Graphic Disp, 128X64, with KS108 Controller; MANF: Winstar; MANF_P#: TS12864A-2, WG12864A-1; PARAM2: Green back, Gray, 5V; PARAM: 128X64 Dots, 2.9"; VALUE: LCD_128X64
footprint LCDG_128X64_GRN (LCD Graphic Disp, 128X64, TS12864A-2)
pins: 1 GND, 2 VCC, 3 VO, 4 RS, 5 R~{W}, 6 E, 7 D0, 8 D1, 9 D2, 10 D3, 11 D4, 12 D5, 13 D6, 14 D7, 15 CS1, 16 CS2, 17 RST#, 18 VEE, 19 BLA, 20 BLK, MH1, MH2, MH3, MH4
text: LCD GRAPHIC; 128 X 64 Dots

## LED SMD 1206 BLUE
designator LED?  Package: 1206
Value: BLUE; Code Anbar: h.k; Category: LED
footprint LED 1206 @ (LED, 1206)
pins: 1 A, 2 K

## LED SMD 1206 GREEN
designator LED?  Package: 1206
Code Anbar: h.k; Value: Green; Category: LED
footprint LED 1206 @ (LED, 1206)
pins: 1 A, 2 K

## LED SMD 1206 RED
designator LED?  Package: 1206
Code Anbar: h.k; Designer: ahmadi; Value: RED-1.9v; Category: LED
footprint LED 1206 @ (LED, 1206)
pins: 1 A, 2 K

## LED SMD 1206 YELLOW
designator LED?  Package: 1206
Code Anbar: h.k; Value: Yellow; Category: LED
footprint LED 1206 @ (LED, 1206)
pins: 1 A, 2 K

## LED THD
designator LED?
THD 5mm RED; Desc: 1.9v; Category: LED; Value: Red
footprint LED_5MM_RED (LED THD 5MM RED)
footprint LED3mm_GRN
pins: 1 A, 2 K

## LED_SMD_RGB_5050
designator D?  value RGB
Code Anbar: gh_o_935_2; Category: LED; Package: 5050
footprint LED SMD RGB 5050 @
pins: 1 B, 2 R, 3 G, 4 G, 5 R, 6 B
text: +; -

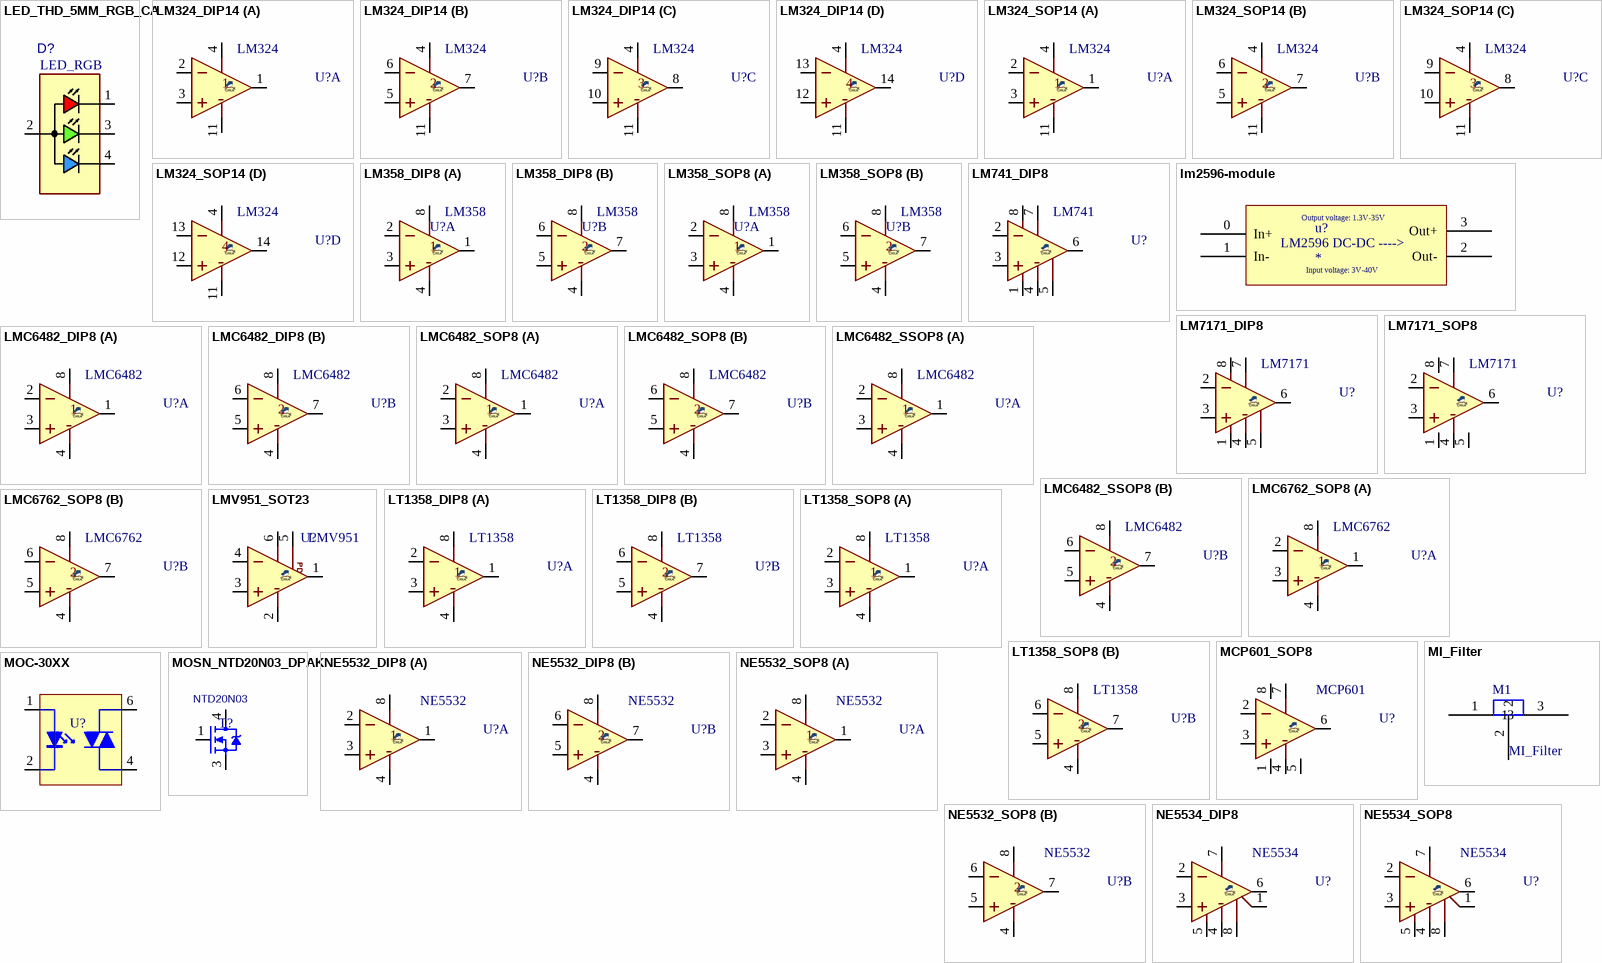
[diagram p11: symbols LED_THD_5MM_RGB_CA to NE5534_SOP8]

## LED_THD_5MM_RGB_CA
designator D?, comment LED_RGB
LED, THD, 5MM, RGB COMMON CATHODE; MANF_P#: YSL-R596CR3G4B5C-C10; MANF: CHINA YOUNG; DESC: DESCRIPTION; ASSEMBLY: ASSEMBLY; PRICE: PRICE; VALUE: LED_RGB
footprint LED5RGB (LED THD 5MM RGB)
pins: 1 RED, 2 C, 3 GRN, 4 BLU

## LM324_DIP14
designator U?, comment LM324
AMP, Quad, Single-Supply; MANF: ON, Texas Instruments, ST; MANF_P#: LM324AN; VALUE: LM324
footprint DIP_14 (DIP, pitch 2.54mm, 300mil Width)
pins on every part: 4 V+, 11 V-
part A pins: 1 OUT, 2 IN-, 3 IN+
part B pins: 5 IN+, 6 IN-, 7 OUT
part C pins: 8 OUT, 9 IN-, 10 IN+
part D pins: 12 IN+, 13 IN-, 14 OUT

## LM324_SOP14
designator U?, comment LM324
AMP, Quad, Single-Supply; MANF: ON, Texas Instruments, ST; MANF_P#: LM324AD; VALUE: LM324
footprint SO_14
pins on every part: 4 V+, 11 V-
part A pins: 1 OUT, 2 IN-, 3 IN+
part B pins: 5 IN+, 6 IN-, 7 OUT
part C pins: 8 OUT, 9 IN-, 10 IN+
part D pins: 12 IN+, 13 IN-, 14 OUT

## LM358_DIP8
designator U?, comment LM358
AMP, Dual, Low-Power; MANF: Texas Instruments, Fairchild; MANF_P#: LM358AN; PARAM2: 3 V ~ 32 V, ±1.5 V ~ 16 V; PRICE: -; VALUE: LM358
footprint DIP_8 (DIP, pitch 2.54mm, 300mil Width)
pins on every part: 4 V-, 8 V+
part A pins: 1 OUT, 2 IN-, 3 IN+
part B pins: 5 IN+, 6 IN-, 7 OUT

## LM358_SOP8
designator U?, comment LM358
AMP, Dual, Low-Power; MANF: Texas Instruments, Fairchild; MANF_P#: LM358AMX; PARAM2: 3 V ~ 32 V, ±1.5 V ~ 16 V; PRICE: 1=0.47, 25=0.31, 100=0.2547, 250=0.21224, 500=0.17632, 750=0.14692, 1000=0.1306 (USD); VALUE: LM358
footprint SO_8
pins on every part: 4 V-, 8 V+
part A pins: 1 OUT, 2 IN-, 3 IN+
part B pins: 5 IN+, 6 IN-, 7 OUT

## LM741_DIP8
designator U?, comment LM741
AMP, General-Purpose; MANF: Texas Instruments; MANF_P#: LM741CN; VALUE: LM741
footprint DIP_8 (DIP, pitch 2.54mm, 300mil Width)
pins: 1 OFFSET_NULL, 2 IN-, 3 IN+, 4 V-, 5 OFFSET_NULL, 6 OUT, 7 V+, 8 NC

## lm2596-module
designator u?
footprint Lm2596-module (7SEG single 5INCH, 10pin, Pitch: 5.08mm, 180X108mm)
pins: 0 In+, 1 In-, 2 Out-, 3 Out+
text: Output voltage: 1.3V-35V; LM2596 DC-DC ---->; Input voltage: 3V-40V

## LM7171_DIP8
designator U?, comment LM7171
AMP, Very High Sp, High Output Current, VoltageFeedback; MANF: Texas Instruments; MANF_P#: LM7171BIN; VALUE: LM7171
footprint DIP_8 (DIP, pitch 2.54mm, 300mil Width)
pins: 1, 2 IN-, 3 IN+, 4 V-, 5, 6 OUT, 7 V+, 8

## LM7171_SOP8
designator U?, comment LM7171
AMP, Very High Sp, High Output Current, VoltageFeedback; MANF: Texas Instruments; MANF_P#: LM7171BIMX, LM7171BIM, LM7171AIM; VALUE: LM7171
footprint SO_8
pins: 1, 2 IN-, 3 IN+, 4 V-, 5, 6 OUT, 7 V+, 8

## LMC6482_DIP8
designator U?, comment LMC6482
AMP, Dual,; MANF: Texas Instruments; MANF_P#: LMC6482IN, LMC6482AIN; VALUE: LMC6482
footprint DIP_8 (DIP, pitch 2.54mm, 300mil Width)
part A pins: 1 OUT, 2 IN-, 3 IN+, 4 V-, 8 V+
part B pins: 4 V-, 5 IN+, 6 IN-, 7 OUT, 8 V+

## LMC6482_SOP8
designator U?, comment LMC6482
AMP, Dual,; MANF: Texas Instruments; MANF_P#: LMC6482AIMX, LMC6482IMX, LMC6482AIM, LMC6482IM; VALUE: LMC6482
footprint SO_8
part A pins: 1 OUT, 2 IN-, 3 IN+, 4 V-, 8 V+
part B pins: 4 V-, 5 IN+, 6 IN-, 7 OUT, 8 V+

## LMC6482_SSOP8
designator U?, comment LMC6482
AMP, Dual,; MANF: Texas Instruments; MANF_P#: LMC6482IMMX, LMC6482IMM; VALUE: LMC6482
footprint SOG65_8_3 (pitch: 0.65mm, 3.0mmX3.0mm, SSOP DCT SM8 (TI), TSSOP8, MICRO8, DGK, MSOP8, RM-8, MS8, MSOP-8, usop8/8uSOP)
part A pins: 1 OUT, 2 IN-, 3 IN+, 4 V-, 8 V+
part B pins: 4 V-, 5 IN+, 6 IN-, 7 OUT, 8 V+

## LMC6762_SOP8
designator U?, comment LMC6762
AMP, Dual, MicroPower, Push-Pull Output, R-To-R Input CMOS Comparator; MANF: Texas Instruments; MANF_P#: LMC6762BIMX, LMC6762BIM, LMC6762AIMX, LMC6762AIM; VALUE: LMC6762
footprint SO_8
part A pins: 1 OUT, 2 IN-, 3 IN+, 4 V-, 8 V+
part B pins: 4 V-, 5 IN+, 6 IN-, 7 OUT, 8 V+

## LMV951_SOT23
designator U?, comment LMV951
AMP, 1V 2.7MHz RR Input & Output; MANF: Texas Instruments; MANF_P#: LMV951MK, LMV951MKX; VALUE: LMV951
footprint SOT23_6 (SOT-23-6, MICRO6, SOT-26, SOT457, SuperSOT6, TSOP-6, HMC313, MO-178AB, MO-193AA, TSOT)
pins: 1 OUT, 2 V-, 3 IN+, 4 IN-, 5 SHDN (power), 6 V+
text: PD

## LT1358_DIP8
designator U?, comment LT1358
AMP, Dual, 25MHz, 600V/µs; MANF: Linear Technology; MANF_P#: LT1358CN8, LT1358IN8; VALUE: LT1358
footprint DIP_8 (DIP, pitch 2.54mm, 300mil Width)
part A pins: 1 OUT, 2 IN-, 3 IN+, 4 V-, 8 V+
part B pins: 4 V-, 5 IN+, 6 IN-, 7 OUT, 8 V+

## LT1358_SOP8
designator U?, comment LT1358
AMP, Dual, 25MHz, 600V/µs; MANF: Linear Technology; MANF_P#: LT1358CS8, LT1358IS8; VALUE: LT1358
footprint SO_8
part A pins: 1 OUT, 2 IN-, 3 IN+, 4 V-, 8 V+
part B pins: 4 V-, 5 IN+, 6 IN-, 7 OUT, 8 V+

## MCP601_SOP8
designator U?, comment MCP601
AMP, 2.7~6.0V Single Supply CMOS; MANF: Microchip; MANF_P#: MCP601-I/SN, MCP601T-E/SN, MCP601-E/SN; VALUE: MCP601
footprint SO_8
pins: 1, 2 IN-, 3 IN+, 4 V-, 5, 6 OUT, 7 V+, 8

## MI_Filter
designator M1
footprint mi_filter
pins: 1, 2, 3

## MOC-30XX
designator U?  (value not drawn)
Category: IC; Package: DIP6; Value: MOC-3063
footprint DIP6 @
pins: 1 A, 2 K, 4 M1, 6 M2

## MOSN_NTD20N03_DPAK
designator T?, comment NTD20N03
MOSFET, N-CH, 30V, 20A, 27mRDS, 1~2VGSth; MANF_P#: NTD20N03L27T4G; PARAM2: 30VDS, 1~2VGSth; PARAM: 20A, 27mRDS, Cin1000pF, -55~150oC; MANF: ON; ASSEMBLY: ASSEMBLY; PRICE: 0.9$; VALUE: NTD20N03
footprint DPAK_3 (D-PAK (TO-252), 3-Pads, Body 6.2x6.7mm)
pins: 1 G, 3 S, 4 D

## NE5532_DIP8
designator U?, comment NE5532
AMP, Dual, Low-Noise; MANF: ON, Texas Instruments; MANF_P#: NE5532AN, NE5532P; VALUE: NE5532
footprint DIP_8 (DIP, pitch 2.54mm, 300mil Width)
part A pins: 1 OUT, 2 IN-, 3 IN+, 4 V-, 8 V+
part B pins: 4 V-, 5 IN+, 6 IN-, 7 OUT, 8 V+

## NE5532_SOP8
designator U?, comment NE5532
AMP, Dual, Low-Noise; MANF: ON, Texas Instruments; MANF_P#: NE5532AD; VALUE: NE5532
footprint SO_8
part A pins: 1 OUT, 2 IN-, 3 IN+, 4 V-, 8 V+
part B pins: 4 V-, 5 IN+, 6 IN-, 7 OUT, 8 V+

## NE5534_DIP8
designator U?, comment NE5534
AMP, Low-Noise; MANF: ON; MANF_P#: NE5534N; PARAM2: ±3~±20V; PARAM: 3.5 nV/√Hz; VALUE: NE5534
footprint DIP_8 (DIP, pitch 2.54mm, 300mil Width)
pins: 1 BALANCE, 2 IN-, 3 IN+, 4 V-, 5 COMP1, 6 OUT, 7 V+, 8 COMP2

## NE5534_SOP8
designator U?, comment NE5534
AMP, Low-Noise; MANF: ON, Texas Instruments; MANF_P#: NE5534AD; PARAM2: ±3~±20V; PARAM: 3.5 nV/√Hz; PRICE: 1$; VALUE: NE5534
footprint SO_8
pins: 1 BALANCE, 2 IN-, 3 IN+, 4 V-, 5 CMP1, 6 OUT, 7 V+, 8 CMP2

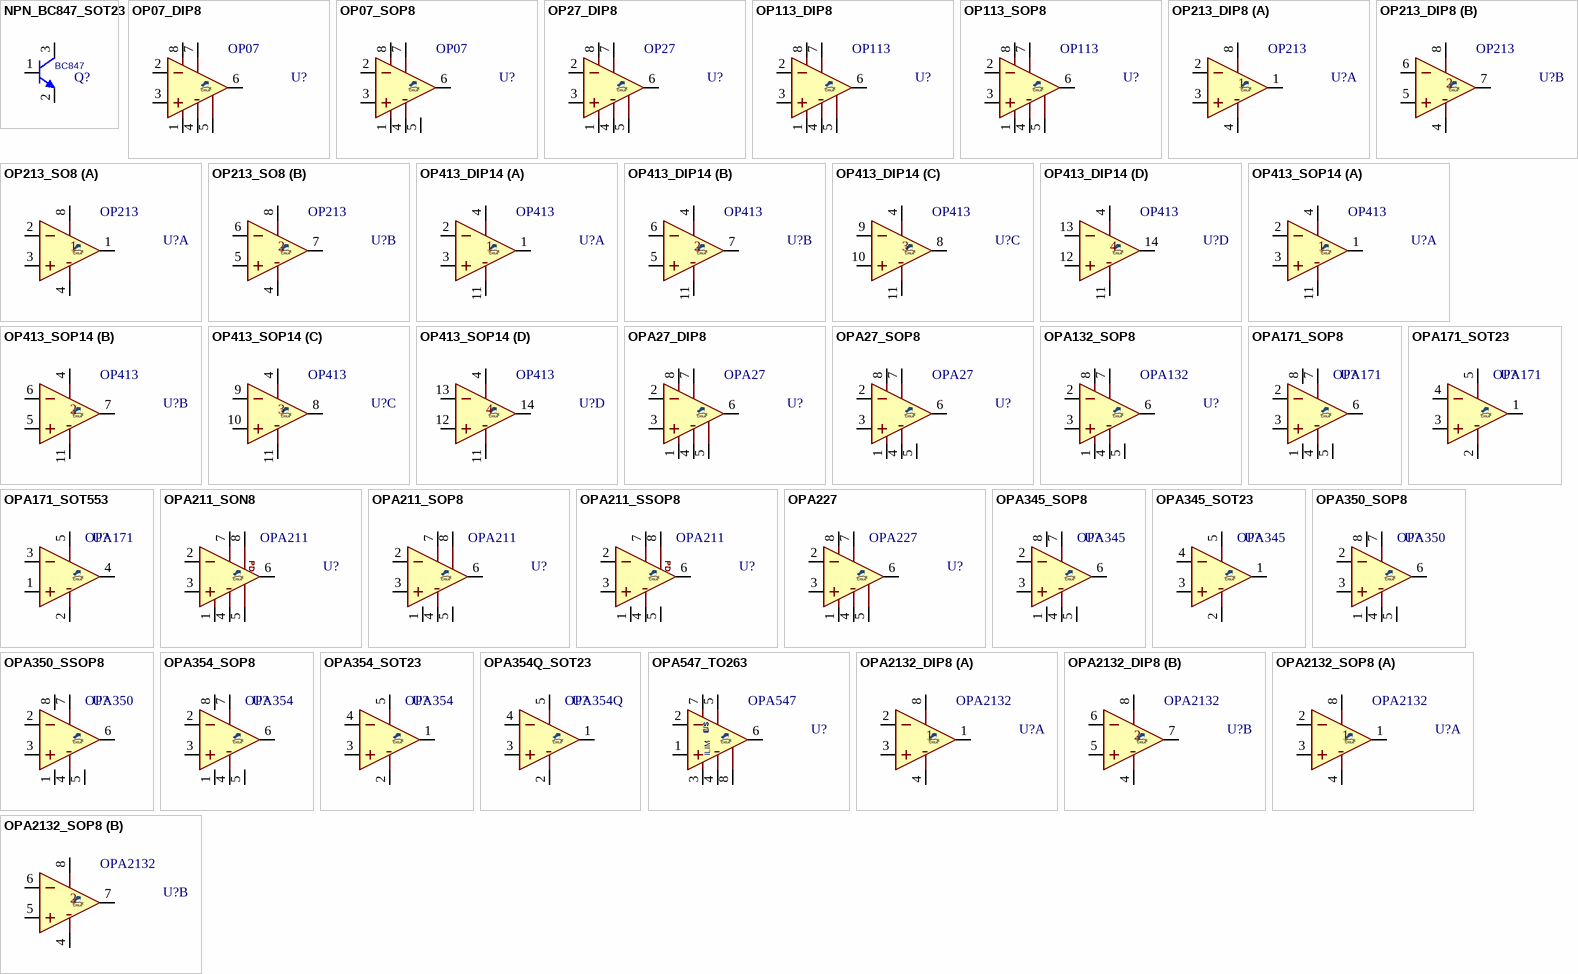
[diagram p12: symbols NPN_BC847_SOT23 to OPA2132_SOP8]

## NPN_BC847_SOT23
designator Q?, comment BC847
BJT, NPN, 45v, 0.1A, SOT23; PARAM: 0.1A, Hfe110~800; PARAM2: 45v, 500mW; MANF: NXP; MANF_P#: BC847; VALUE: BC847
footprint SOT23_3 (SOT-23, Micro3, MO-178, TO-236AB, MO-193C, SuperSOT3, SC-59, 1.9mm pitch 3X1.5mm body)
simulation model NS3904
pins: 1 B, 2 E, 3 C

## OP07_DIP8
designator U?, comment OP07
AMP, Ultralow Offset; MANF: Analog Devices; MANF_P#: OP07EPZ, OP07DNZ, OP07CPZ; PARAM2: ±3~18V; VALUE: OP07
footprint DIP_8 (DIP, pitch 2.54mm, 300mil Width)
pins: 1 VOSTRM, 2 IN-, 3 IN+, 4 V-, 5 NC, 6 OUT, 7 V+, 8 VOSTRIM

## OP07_SOP8
designator U?, comment OP07
AMP, Ultralow Offset; MANF: Analog Devices; MANF_P#: OP07CSZ, OP07DRZ; PARAM2: ±3~18V; VALUE: OP07
footprint SO_8
pins: 1 VOSTRM, 2 IN-, 3 IN+, 4 V-, 5 NC, 6 OUT, 7 V+, 8 VOSTRIM

## OP27_DIP8
designator U?, comment OP27
AMP, Ultralow Offset; MANF: Analog Devices; PARAM2: ±3~18V; MANF_P#: OP27; VALUE: OP27
footprint DIP_8 (DIP, pitch 2.54mm, 300mil Width)
pins: 1 VOSTRM, 2 IN-, 3 IN+, 4 V-, 5 NC, 6 OUT, 7 V+, 8 VOSTRIM

## OP113_DIP8
designator U?, comment OP113
AMP, Low-Noise, Low Drift, Single-Supply; MANF: Analog Devices; MANF_P#: OP113EPZ; PARAM2: 4~36V, ±2~±18V; PARAM: 3.4 MHz BW; VALUE: OP113
footprint DIP_8 (DIP, pitch 2.54mm, 300mil Width)
pins: 1 OFFSET_NULL, 2 IN-, 3 IN+, 4 V-, 5 OFFSET_NULL, 6 OUT, 7 V+, 8 NC

## OP113_SOP8
designator U?, comment OP113
AMP, Low-Noise, Low Drift, Single-Supply; MANF: Analog Devices; MANF_P#: OP113ESZ; PARAM2: 4~36V, ±2~±18V; PARAM: 3.4 MHz BW; VALUE: OP113
footprint SO_8
pins: 1 OFFSET_NULL, 2 IN-, 3 IN+, 4 V-, 5 OFFSET_NULL, 6 OUT, 7 V+, 8 NC

## OP213_DIP8
designator U?, comment OP213
AMP, DUAL, Low-Noise, Low Drift, Single-Supply; MANF: Analog Devices; MANF_P#: OP213EP, OP213FP; PARAM2: 4~36V, ±2~±18V; VALUE: OP213
footprint DIP_8 (DIP, pitch 2.54mm, 300mil Width)
part A pins: 1 OUT, 2 IN-, 3 IN+, 4 V-, 8 V+
part B pins: 4 V-, 5 IN+, 6 IN-, 7 OUT, 8 V+

## OP213_SO8
designator U?, comment OP213
AMP, DUAL, Low-Noise, Low Drift, Single-Supply; MANF: Analog Devices; MANF_P#: OP213ES, OP213FS; PARAM2: 4~36V, ±2~±18V; VALUE: OP213
footprint SO_8
part A pins: 1 OUT, 2 IN-, 3 IN+, 4 V-, 8 V+
part B pins: 4 V-, 5 IN+, 6 IN-, 7 OUT, 8 V+

## OP413_DIP14
designator U?, comment OP413
AMP, Low-Noise, Low Drift, Single-Supply; MANF: Analog Devices; MANF_P#: OP413EP, OP413FP; PARAM2: 4~36V, ±2~±18V; VALUE: OP413
footprint DIP_14 (DIP, pitch 2.54mm, 300mil Width)
pins on every part: 4 V+, 11 V-
part A pins: 1 OUT, 2 IN-, 3 IN+
part B pins: 5 IN+, 6 IN-, 7 OUT
part C pins: 8 OUT, 9 IN-, 10 IN+
part D pins: 12 IN+, 13 IN-, 14 OUT

## OP413_SOP14
designator U?, comment OP413
AMP, Low-Noise, Low Drift, Single-Supply; MANF: Analog Devices; MANF_P#: OP413ES, OP413FS; PARAM2: 4~36V, ±2~±18V; VALUE: OP413
footprint SO_14
pins on every part: 4 V+, 11 V-
part A pins: 1 OUT, 2 IN-, 3 IN+
part B pins: 5 IN+, 6 IN-, 7 OUT
part C pins: 8 OUT, 9 IN-, 10 IN+
part D pins: 12 IN+, 13 IN-, 14 OUT

## OPA27_DIP8
designator U?, comment OPA27
AMP, Ultra-Low Noise, Precision; MANF: Texas Instruments; MANF_P#: OPA27GP; PARAM2: ±4~22V,  4.5nV/√Hz, 8MHz; PARAM: 100uV OFFSET, 0.4uV/°C, -40~85°C; PRICE: 3.6$; VALUE: OPA27
footprint DIP_8 (DIP, pitch 2.54mm, 300mil Width)
pins: 1 VOSTRM, 2 IN-, 3 IN+, 4 V-, 5 NC, 6 OUT, 7 V+, 8 VOSTRIM

## OPA27_SOP8
designator U?, comment OPA27
AMP, Ultra-Low Noise, Precision; MANF: Texas Instruments; MANF_P#: OPA27GU; PARAM2: ±4~22V,  4.5nV/√Hz, 8MHz; PARAM: 100uV OFFSET, 0.4uV/°C, -40~85°C; PRICE: 6000t@PAYA, 3.7$; VALUE: OPA27
footprint SO_8 (SOP-8, 5x3.9mm body 1.27mm pitch, SOT96-1, M08A, S8, SOIC8, VO8, MS-012AA(JEDEC), R-8, 8S2, VOG8)
pins: 1 VOSTRM, 2 IN-, 3 IN+, 4 V-, 5 NC, 6 OUT, 7 V+, 8 VOSTRIM

## OPA132_SOP8
designator U?, comment OPA132
AMP, Ultra-Low Noise, Precision; MANF: Texas Instruments; MANF_P#: OPA132U; PARAM2: ±2.5~±18V, 8nV/√Hz, 8MHz BW; PARAM: 50pA, 20V/us, 500uV OFFSET, -40~125°C; PRICE: 5000t@PAYA, 4$; VALUE: OPA132
footprint SO_8 (SOP-8, 5x3.9mm body 1.27mm pitch, SOT96-1, M08A, S8, SOIC8, VO8, MS-012AA(JEDEC), R-8, 8S2, VOG8)
pins: 1 VOSTRM, 2 IN-, 3 IN+, 4 V-, 5 NC, 6 OUT, 7 V+, 8 VOSTRIM

## OPA171_SOP8
designator U?, comment OPA171
AMP, Low Noise, Low Drift, Single-Supply; MANF: Texas Instruments; MANF_P#: OPA171AID; PARAM2: 2.7~36V, ±1.35~±18V, 3MHz BW; PARAM: 8pA input, 14nV/√Hz, -40~125°C; PRICE: 5000t@PAYA, 1.4$; VALUE: OPA171
footprint SO_8 (SOP-8, 5x3.9mm body 1.27mm pitch, SOT96-1, M08A, S8, SOIC8, VO8, MS-012AA(JEDEC), R-8, 8S2, VOG8)
pins: 1 NC, 2 IN-, 3 IN+, 4 V-, 5 NC, 6 OUT, 7 V+, 8 NC

## OPA171_SOT23
designator U?, comment OPA171
AMP, Low Noise, Low Drift, Single-Supply; MANF: Texas Instruments; MANF_P#: OPA171AIDBV; PARAM2: 2.7~36V, ±1.35~±18V, 3MHz BW; PARAM: 8pA input, 14nV/√Hz, -40~125°C; PRICE: 5000t@PAYA, 1.4$; VALUE: OPA171
footprint SOT23_5 (SOT-23-5, SOT25, SOT-25, DBV(R-PDSO-G5), TSOT23-5, SC-74A, SOT23-5, S5-T (LINEAR), MO-178AA, MO-193AB(JEDEC), MF05A (NS), TSOP-6(ON), UJ-5 (AD))
pins: 1 OUT, 2 V-, 3 IN+, 4 IN-, 5 V+

## OPA171_SOT553
designator U?, comment OPA171
AMP, Low Noise, Low Drift, Single-Supply; MANF: Texas Instruments; MANF_P#: OPA171AIDRL; PARAM2: 2.7~36V, ±1.35~±18V, 3MHz BW; PARAM: 8pA input, 14nV/√Hz, -40~125°C; PRICE: 1.6$; VALUE: OPA171
footprint SOT553_5 (SOT-553, 5 LEAD, Body 1.2x1.6mm, Pitch 0.50mm, DSO50_5_160X120)
pins: 1 IN+, 2 V-, 3 IN-, 4 OUT, 5 V+

## OPA211_SON8
designator U?, comment OPA211
AMP, Precision, 1.1nV/rtHz Noise, Lo Pwr; MANF: Texas Instruments; MANF_P#: OPA211AIDRG; PARAM2: ±2.25~±18V/4.5~36V, 80MHz BW; PARAM: 30mA out, 3.6mA supply, -40~125oC; PRICE: 7$; VALUE: OPA211
footprint SON50_8T_3X3 (Footprint not found)
pins: 1, 2 IN-, 3 IN+, 4 V-, 5, 6 OUT, 7 V+, 8 SHDN
text: PD

## OPA211_SOP8
designator U?, comment OPA211
AMP, Precision, 1.1nV/rtHz Noise, Lo Pwr; MANF: Texas Instruments; MANF_P#: OPA211AID, OPA211ID; PARAM2: ±2.25~±18V/4.5~36V, 80MHz BW; PARAM: 30mA out, 3.6mA supply, -40~125oC; PRICE: 7$; VALUE: OPA211
footprint SO_8
pins: 1, 2 IN-, 3 IN+, 4 V-, 5, 6 OUT, 7 V+, 8 SHDN

## OPA211_SSOP8
designator U?, comment OPA211
AMP, Precision, 1.1nV/rtHz Noise, Lo Pwr; MANF: Texas Instruments; MANF_P#: OPA211AIDGK, OPA211MDGKTEP, OPA211IDGK; PARAM2: ±2.25~±18V/4.5~36V, 80MHz BW; PARAM: 30mA out, 3.6mA supply, -40~125oC; PRICE: 7$; VALUE: OPA211
footprint SOG65_8_3 (pitch: 0.65mm, 3.0mmX3.0mm, SSOP DCT SM8 (TI), TSSOP8, MICRO8, DGK, MSOP8, RM-8, MS8, MSOP-8, usop8/8uSOP)
pins: 1, 2 IN-, 3 IN+, 4 V-, 5, 6 OUT, 7 V+, 8 SHDN
text: PD

## OPA227
designator U?
AMP, High Precision, Low Noise, 3nV/√Hz; MANF: Texas Instruments; MANF_P#: OPA227UA; PARAM2: ±2.5~±18V, 8MHz BW; PARAM: 10nA input, -40~85°C; VALUE: OPA227
footprint SO_8
pins: 1 TRIM, 2 IN-, 3 IN+, 4 V-, 5 NC, 6 OUT, 7 V+, 8 TRIM

## OPA345_SOP8
designator U?, comment OPA345
AMP, Low Power, Rail-to-Rail, Single-Supply; MANF: Texas Instruments; MANF_P#: OPA345UA; PARAM2: 2.5~5.5V, 3MHz BW; PARAM: 2v/us, -40~85°C; PRICE: 6000t@PAYA, 1.6$; VALUE: OPA345
footprint SO_8 (SOP-8, 5x3.9mm body 1.27mm pitch, SOT96-1, M08A, S8, SOIC8, VO8, MS-012AA(JEDEC), R-8, 8S2, VOG8)
pins: 1 NC, 2 IN-, 3 IN+, 4 V-, 5 NC, 6 OUT, 7 V+, 8 NC

## OPA345_SOT23
designator U?, comment OPA345
AMP, Low Power, Rail-to-Rail, Single-Supply; MANF: Texas Instruments; MANF_P#: OPA345NA; PARAM2: 2.5~5.5V, 3MHz BW; PARAM: 2v/us, -40~85°C; PRICE: 1.5$; VALUE: OPA345
footprint SOT23_5 (SOT-23-5, SOT25, SOT-25, DBV(R-PDSO-G5), TSOT23-5, SC-74A, SOT23-5, S5-T (LINEAR), MO-178AA, MO-193AB(JEDEC), MF05A (NS), TSOP-6(ON), UJ-5 (AD))
pins: 1 OUT, 2 V-, 3 IN+, 4 IN-, 5 V+

## OPA350_SOP8
designator U?, comment OPA350
AMP, Low Power, Rail-to-Rail, Single-Supply; MANF: Texas Instruments; MANF_P#: OPA350UA; PARAM2: 2.7~5.5V, 38MHz BW; PARAM: 5nV/√Hz, 22V/us, -40~85°C; PRICE: 2.7$; VALUE: OPA350
footprint SO_8 (SOP-8, 5x3.9mm body 1.27mm pitch, SOT96-1, M08A, S8, SOIC8, VO8, MS-012AA(JEDEC), R-8, 8S2, VOG8)
pins: 1 NC, 2 IN-, 3 IN+, 4 V-, 5 NC, 6 OUT, 7 V+, 8 NC

## OPA350_SSOP8
designator U?, comment OPA350
AMP, Low Power, Rail-to-Rail, Single-Supply; MANF: Texas Instruments; MANF_P#: OPA350EA; PARAM2: 2.7~5.5V, 38MHz BW; PARAM: 5nV/√Hz, 22V/us, -40~85°C; PRICE: 3$; VALUE: OPA350
footprint SOG65_8_3 (TSSOP8, MICRO8, DGK VSSOP-8, pitch: 0.65mm, 3X3mm, MSOP8, RM-8, MS8, MSOP-8, TSSO3X5-G8/D3.1, 8 uMAX, usop8/8uSOP, MO-187AA, MO-153AA, SSOP DCT (TI))
pins: 1 NC, 2 IN-, 3 IN+, 4 V-, 5 NC, 6 OUT, 7 V+, 8 NC

## OPA354_SOP8
designator U?, comment OPA354
AMP, Low Noise, Rail-to-Rail, Single-Supply; MANF: Texas Instruments; MANF_P#: OPA354AIDDA; PARAM2: 2.5~5.5V, 6.5nV/√Hz, 250MHz BW; PARAM: 100mA out, 3pA in, 150v/us, -40~125°C; PRICE: 1.8$; VALUE: OPA354
footprint SO_8 (SOP-8, 5x3.9mm body 1.27mm pitch, SOT96-1, M08A, S8, SOIC8, VO8, MS-012AA(JEDEC), R-8, 8S2, VOG8)
pins: 1 NC, 2 IN-, 3 IN+, 4 V-, 5 NC, 6 OUT, 7 V+, 8 NC

## OPA354_SOT23
designator U?, comment OPA354
AMP, Low Noise, Rail-to-Rail, Single-Supply; MANF: Texas Instruments; MANF_P#: OPA354AIDBV; PARAM2: 2.5~5.5V, 6.5nV/√Hz, 250MHz BW; PARAM: 100mA out, 3pA in, 150v/us, -40~125°C; PRICE: 3000t@PAYA, 1.8$; VALUE: OPA354
footprint SOT23_5 (SOT-23-5, SOT25, SOT-25, DBV(R-PDSO-G5), TSOT23-5, SC-74A, SOT23-5, S5-T (LINEAR), MO-178AA, MO-193AB(JEDEC), MF05A (NS), TSOP-6(ON), UJ-5 (AD))
pins: 1 OUT, 2 V-, 3 IN+, 4 IN-, 5 V+

## OPA354Q_SOT23
designator U?, comment OPA354Q
AMP, Low Noise, Rail-to-Rail, Single-Supply; MANF: Texas Instruments; MANF_P#: OPA354AQDBVRQ1; PARAM2: 2.5~5.5V, 6.5nV/√Hz, 250MHz BW; PARAM: 100mA out, 3pA in, 150v/us, -40~125°C; PRICE: 2.2$; VALUE: OPA354Q
footprint SOT23_5 (SOT-23-5, SOT25, SOT-25, DBV(R-PDSO-G5), TSOT23-5, SC-74A, SOT23-5, S5-T (LINEAR), MO-178AA, MO-193AB(JEDEC), MF05A (NS), TSOP-6(ON), UJ-5 (AD))
pins: 1 OUT, 2 V-, 3 IN+, 4 IN-, 5 V+

## OPA547_TO263
designator U?, comment OPA547
AMP, HighVoltage, High Current; MANF: Texas Instruments; MANF_P#: OPA547F; PARAM2: ±4~±30V/8~60v; PARAM: 0.5A; VALUE: OPA547
footprint D2PAK_7 (TO-263-7, D2PAK-7, FMG127_7_S1000)
pins: 1 IN+, 2 IN-, 3 ILIM, 4 V-, 5 V+, 6 OUT, 7 E/S, 8 EP

## OPA2132_DIP8
designator U?, comment OPA2132
AMP, Ultra-Low Noise, Precision; MANF: Texas Instruments; MANF_P#: OPA2132PA; PARAM2: ±2.5~±18V, 8nV/√Hz, 8MHz BW; PARAM: 50pA, 20V/us, 500uV OFFSET, -40~125°C; PRICE: 7$; VALUE: OPA2132
footprint DIP_8 (DIP, pitch 2.54mm, 300mil Width)
part A pins: 1 OUT, 2 IN-, 3 IN+, 4 V-, 8 V+
part B pins: 4 V-, 5 IN+, 6 IN-, 7 OUT, 8 V+

## OPA2132_SOP8
designator U?, comment OPA2132
AMP, Ultra-Low Noise, Precision; MANF: Texas Instruments; MANF_P#: OPA2132UA; PARAM2: ±2.5~±18V, 8nV/√Hz, 8MHz BW; PARAM: 50pA, 20V/us, 500uV OFFSET, -40~125°C; PRICE: 7$; VALUE: OPA2132
footprint SO_8 (SOP-8, 5x3.9mm body 1.27mm pitch, SOT96-1, M08A, S8, SOIC8, VO8, MS-012AA(JEDEC), R-8, 8S2, VOG8)
part A pins: 1 OUT, 2 IN-, 3 IN+, 4 V-, 8 V+
part B pins: 4 V-, 5 IN+, 6 IN-, 7 OUT, 8 V+

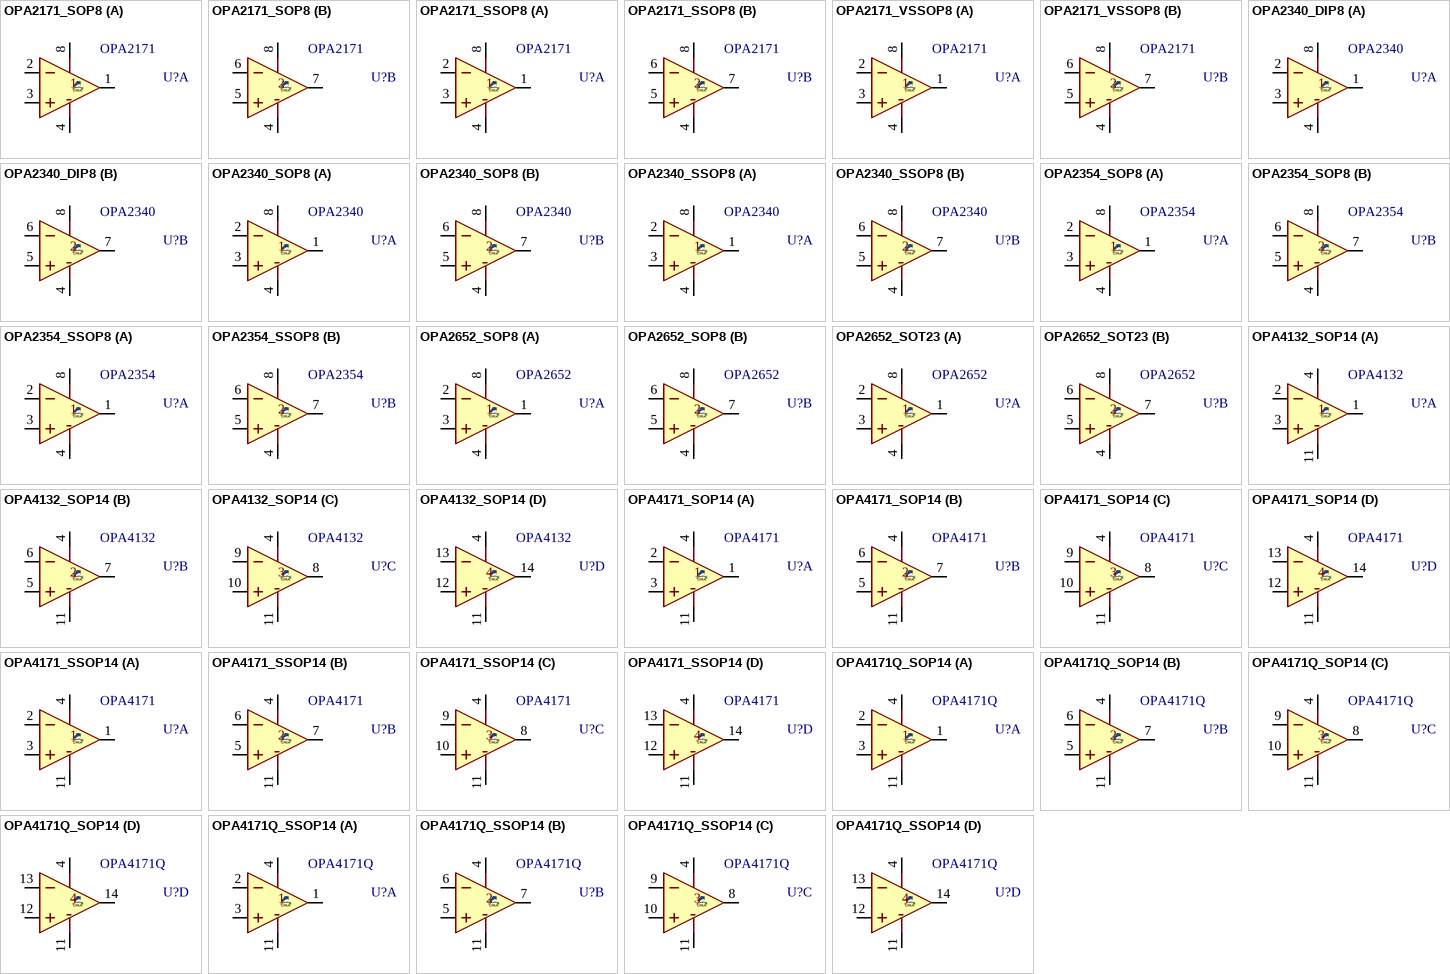
[diagram p13: symbols OPA2171_SOP8 to OPA4171Q_SSOP14]

## OPA2171_SOP8
designator U?, comment OPA2171
AMP, Low Noise, Low Drift, Single-Supply; MANF: Texas Instruments; MANF_P#: OPA2171AID; PARAM2: 2.7~36V, ±1.35~±18V, 3MHz BW; PARAM: 8pA input, 14nV/√Hz, -40~125°C; PRICE: 2.2$; VALUE: OPA2171
footprint SO_8 (SOP-8, 5x3.9mm body 1.27mm pitch, SOT96-1, M08A, S8, SOIC8, VO8, MS-012AA(JEDEC), R-8, 8S2, VOG8)
part A pins: 1 OUT, 2 IN-, 3 IN+, 4 V-, 8 V+
part B pins: 4 V-, 5 IN+, 6 IN-, 7 OUT, 8 V+

## OPA2171_SSOP8
designator U?, comment OPA2171
AMP, Low Noise, Low Drift, Single-Supply; MANF: Texas Instruments; MANF_P#: OPA2171AIDGK; PARAM2: 2.7~36V, ±1.35~±18V, 3MHz BW; PARAM: 8pA input, 14nV/√Hz, -40~125°C; PRICE: 2.2$; VALUE: OPA2171
footprint SOG65_8_3 (TSSOP8, MICRO8,  DGK VSSOP-8, MSOP8,   RM-8, MS8, MSOP-8, TSSO3X5-G8/D3.1, 8 uMAX, usop8/8uSOP, MO-187AA, MO-153AA, SSOP DCT SM8 (TI), pitch: 0.65mm, 3.0mmX3.0mm)
part A pins: 1 OUT, 2 IN-, 3 IN+, 4 V-, 8 V+
part B pins: 4 V-, 5 IN+, 6 IN-, 7 OUT, 8 V+

## OPA2171_VSSOP8
designator U?, comment OPA2171
AMP, Low Noise, Low Drift, Single-Supply; MANF: Texas Instruments; MANF_P#: OPA2171AIDCU; PARAM2: 2.7~36V, ±1.35~±18V, 3MHz BW; PARAM: 8pA input, 14nV/√Hz, -40~125°C; PRICE: 2.2$; VALUE: OPA2171
footprint SOG50_8 (VSSOP DCU US8  (TI), 8-Leads, 2.00x2.30mm, Pitch 0.50mm)
part A pins: 1 OUT, 2 IN-, 3 IN+, 4 V-, 8 V+
part B pins: 4 V-, 5 IN+, 6 IN-, 7 OUT, 8 V+

## OPA2340_DIP8
designator U?, comment OPA2340
AMP, Rail-to-Rail, Dual; MANF: Texas Instruments; MANF_P#: OPA2340PA; PARAM2: 2.5~5.5V, 5.5MHz BW; PARAM: 6v/us, -40~85°C; PRICE: 4$; VALUE: OPA2340
footprint DIP_8 (DIP, pitch 2.54mm, 300mil Width)
part A pins: 1 OUT, 2 IN-, 3 IN+, 4 V-, 8 V+
part B pins: 4 V-, 5 IN+, 6 IN-, 7 OUT, 8 V+

## OPA2340_SOP8
designator U?, comment OPA2340
AMP, Rail-to-Rail, Dual; MANF: Texas Instruments; MANF_P#: OPA2340UA; PARAM2: 2.5~5.5V, 5.5MHz BW; PARAM: 6v/us, -40~85°C; PRICE: 10000t@PAYA, 4$; VALUE: OPA2340
footprint SO_8 (SOP-8, 5x3.9mm body 1.27mm pitch, SOT96-1, M08A, S8, SOIC8, VO8, MS-012AA(JEDEC), R-8, 8S2, VOG8)
part A pins: 1 OUT, 2 IN-, 3 IN+, 4 V-, 8 V+
part B pins: 4 V-, 5 IN+, 6 IN-, 7 OUT, 8 V+

## OPA2340_SSOP8
designator U?, comment OPA2340
AMP, Rail-to-Rail, Dual; MANF: Texas Instruments; MANF_P#: OPA2340EA; PARAM2: 2.5~5.5V, 5.5MHz BW; PARAM: 6v/us, -40~85°C; PRICE: 4$; VALUE: OPA2340
footprint SOG65_8_3 (TSSOP8, MICRO8,  DGK VSSOP-8, MSOP8,   RM-8, MS8, MSOP-8, TSSO3X5-G8/D3.1, 8 uMAX, usop8/8uSOP, MO-187AA, MO-153AA, SSOP DCT SM8 (TI), pitch: 0.65mm, 3.0mmX3.0mm)
part A pins: 1 OUT, 2 IN-, 3 IN+, 4 V-, 8 V+
part B pins: 4 V-, 5 IN+, 6 IN-, 7 OUT, 8 V+

## OPA2354_SOP8
designator U?, comment OPA2354
AMP, Low Noise, Rail-to-Rail, Single-Supply; MANF: Texas Instruments; MANF_P#: OPA2354AIDDA; PARAM2: 2.5~5.5V, 6.5nV/√Hz, 250MHz BW; PARAM: 100mA out, 3pA in, 150v/us, -40~125°C; PRICE: 3$; VALUE: OPA2354
footprint SO_8 (SOP-8, 5x3.9mm body 1.27mm pitch, SOT96-1, M08A, S8, SOIC8, VO8, MS-012AA(JEDEC), R-8, 8S2, VOG8)
part A pins: 1 OUT, 2 IN-, 3 IN+, 4 V-, 8 V+
part B pins: 4 V-, 5 IN+, 6 IN-, 7 OUT, 8 V+

## OPA2354_SSOP8
designator U?, comment OPA2354
AMP, Low Noise, Rail-to-Rail, Single-Supply; MANF: Texas Instruments; MANF_P#: OPA2354AIDGK; PARAM2: 2.5~5.5V, 6.5nV/√Hz, 250MHz BW; PARAM: 100mA out, 3pA in, 150v/us, -40~125°C; PRICE: 3$; VALUE: OPA2354
footprint SOG65_8_3 (TSSOP8, MICRO8,  DGK VSSOP-8, MSOP8,   RM-8, MS8, MSOP-8, TSSO3X5-G8/D3.1, 8 uMAX, usop8/8uSOP, MO-187AA, MO-153AA, SSOP DCT SM8 (TI), pitch: 0.65mm, 3.0mmX3.0mm)
part A pins: 1 OUT, 2 IN-, 3 IN+, 4 V-, 8 V+
part B pins: 4 V-, 5 IN+, 6 IN-, 7 OUT, 8 V+

## OPA2652_SOP8
designator U?, comment OPA2652
AMP, Rail-to-Rail, Dual; MANF: Texas Instruments; MANF_P#: OPA2652U; PARAM2: ±3~±6V/6~12V, 700MHz BW; PARAM: 140mA out, 5.5mA supply, -40~85°C; PRICE: 3.6$; VALUE: OPA2652
footprint SO_8 (SOP-8, 5x3.9mm body 1.27mm pitch, SOT96-1, M08A, S8, SOIC8, VO8, MS-012AA(JEDEC), R-8, 8S2, VOG8)
part A pins: 1 OUT, 2 IN-, 3 IN+, 4 V-, 8 V+
part B pins: 4 V-, 5 IN+, 6 IN-, 7 OUT, 8 V+

## OPA2652_SOT23
designator U?, comment OPA2652
AMP, Rail-to-Rail, Dual; MANF: Texas Instruments; MANF_P#: OPA2652E; PARAM2: ±3~±6V/6~12V, 700MHz BW; PARAM: 140mA out, 5.5mA supply, -40~85°C; PRICE: 6000t@PAYA, 3.6$; VALUE: OPA2652
footprint SOT23_8 (SOT23, 8-Leads, DDF, 2.90x2.80mm, Pitch 0.65mm, DSO65_8_300X150)
part A pins: 1 OUT, 2 IN-, 3 IN+, 4 V-, 8 V+
part B pins: 4 V-, 5 IN+, 6 IN-, 7 OUT, 8 V+

## OPA4132_SOP14
designator U?, comment OPA4132
AMP, Ultra-Low Noise, Precision; MANF: Texas Instruments; MANF_P#: OPA4132UA; PARAM2: ±2.5~±18V, 8nV/√Hz, 8MHz BW; PARAM: 50pA, 20V/us, 500uV OFFSET, -40~125°C; PRICE: 7$; VALUE: OPA4132
footprint SO_14 (SOP, SOIC, 3.9mm width, 1.27mm pitch,)
part A pins: 1 OUT, 2 IN-, 3 IN+, 4 V+, 11 V-
part B pins: 4 V+, 5 IN+, 6 IN-, 7 OUT, 11 V-
part C pins: 4 V+, 8 OUT, 9 IN-, 10 IN+, 11 V-
part D pins: 4 V+, 11 V-, 12 IN+, 13 IN-, 14 OUT

## OPA4171_SOP14
designator U?, comment OPA4171
AMP, Low Noise, Low Drift, Single-Supply; MANF: Texas Instruments; MANF_P#: OPA4171AID; PARAM2: 2.7~36V, ±1.35~±18V, 3MHz BW; PARAM: 8pA input, 14nV/√Hz, -40~125°C; PRICE: 3$; VALUE: OPA4171
footprint SO_14 (SOP, SOIC, 3.9mm width, 1.27mm pitch,)
part A pins: 1 OUT, 2 IN-, 3 IN+, 4 V+, 11 V-
part B pins: 4 V+, 5 IN+, 6 IN-, 7 OUT, 11 V-
part C pins: 4 V+, 8 OUT, 9 IN-, 10 IN+, 11 V-
part D pins: 4 V+, 11 V-, 12 IN+, 13 IN-, 14 OUT

## OPA4171_SSOP14
designator U?, comment OPA4171
AMP, Low Noise, Low Drift, Single-Supply; MANF: Texas Instruments; MANF_P#: OPA4171AIPW; PARAM2: 2.7~36V, ±1.35~±18V, 3MHz BW; PARAM: 8pA input, 14nV/√Hz, -40~125°C; PRICE: 3$; VALUE: OPA4171
footprint SOG65_14 (PW TSSOP (TI), MO-153-AB (JEDEC), 14Lead, pitch: 0.65mm, 5x4.4x1.2mm)
part A pins: 1 OUT, 2 IN-, 3 IN+, 4 V+, 11 V-
part B pins: 4 V+, 5 IN+, 6 IN-, 7 OUT, 11 V-
part C pins: 4 V+, 8 OUT, 9 IN-, 10 IN+, 11 V-
part D pins: 4 V+, 11 V-, 12 IN+, 13 IN-, 14 OUT

## OPA4171Q_SOP14
designator U?, comment OPA4171Q
AMP, Low Noise, Low Drift, Single-Supply; MANF: Texas Instruments; MANF_P#: OPA4171AQDRQ1; PARAM2: 2.7~36V, ±1.35~±18V, 3MHz BW; PARAM: 8pA input, 14nV/√Hz, -40~125°C; PRICE: 3$; VALUE: OPA4171Q
footprint SO_14 (SOP, SOIC, 3.9mm width, 1.27mm pitch,)
part A pins: 1 OUT, 2 IN-, 3 IN+, 4 V+, 11 V-
part B pins: 4 V+, 5 IN+, 6 IN-, 7 OUT, 11 V-
part C pins: 4 V+, 8 OUT, 9 IN-, 10 IN+, 11 V-
part D pins: 4 V+, 11 V-, 12 IN+, 13 IN-, 14 OUT